# Altium schematic symbol library CHXXX.schlib: 489 symbols (part 5 of 7)
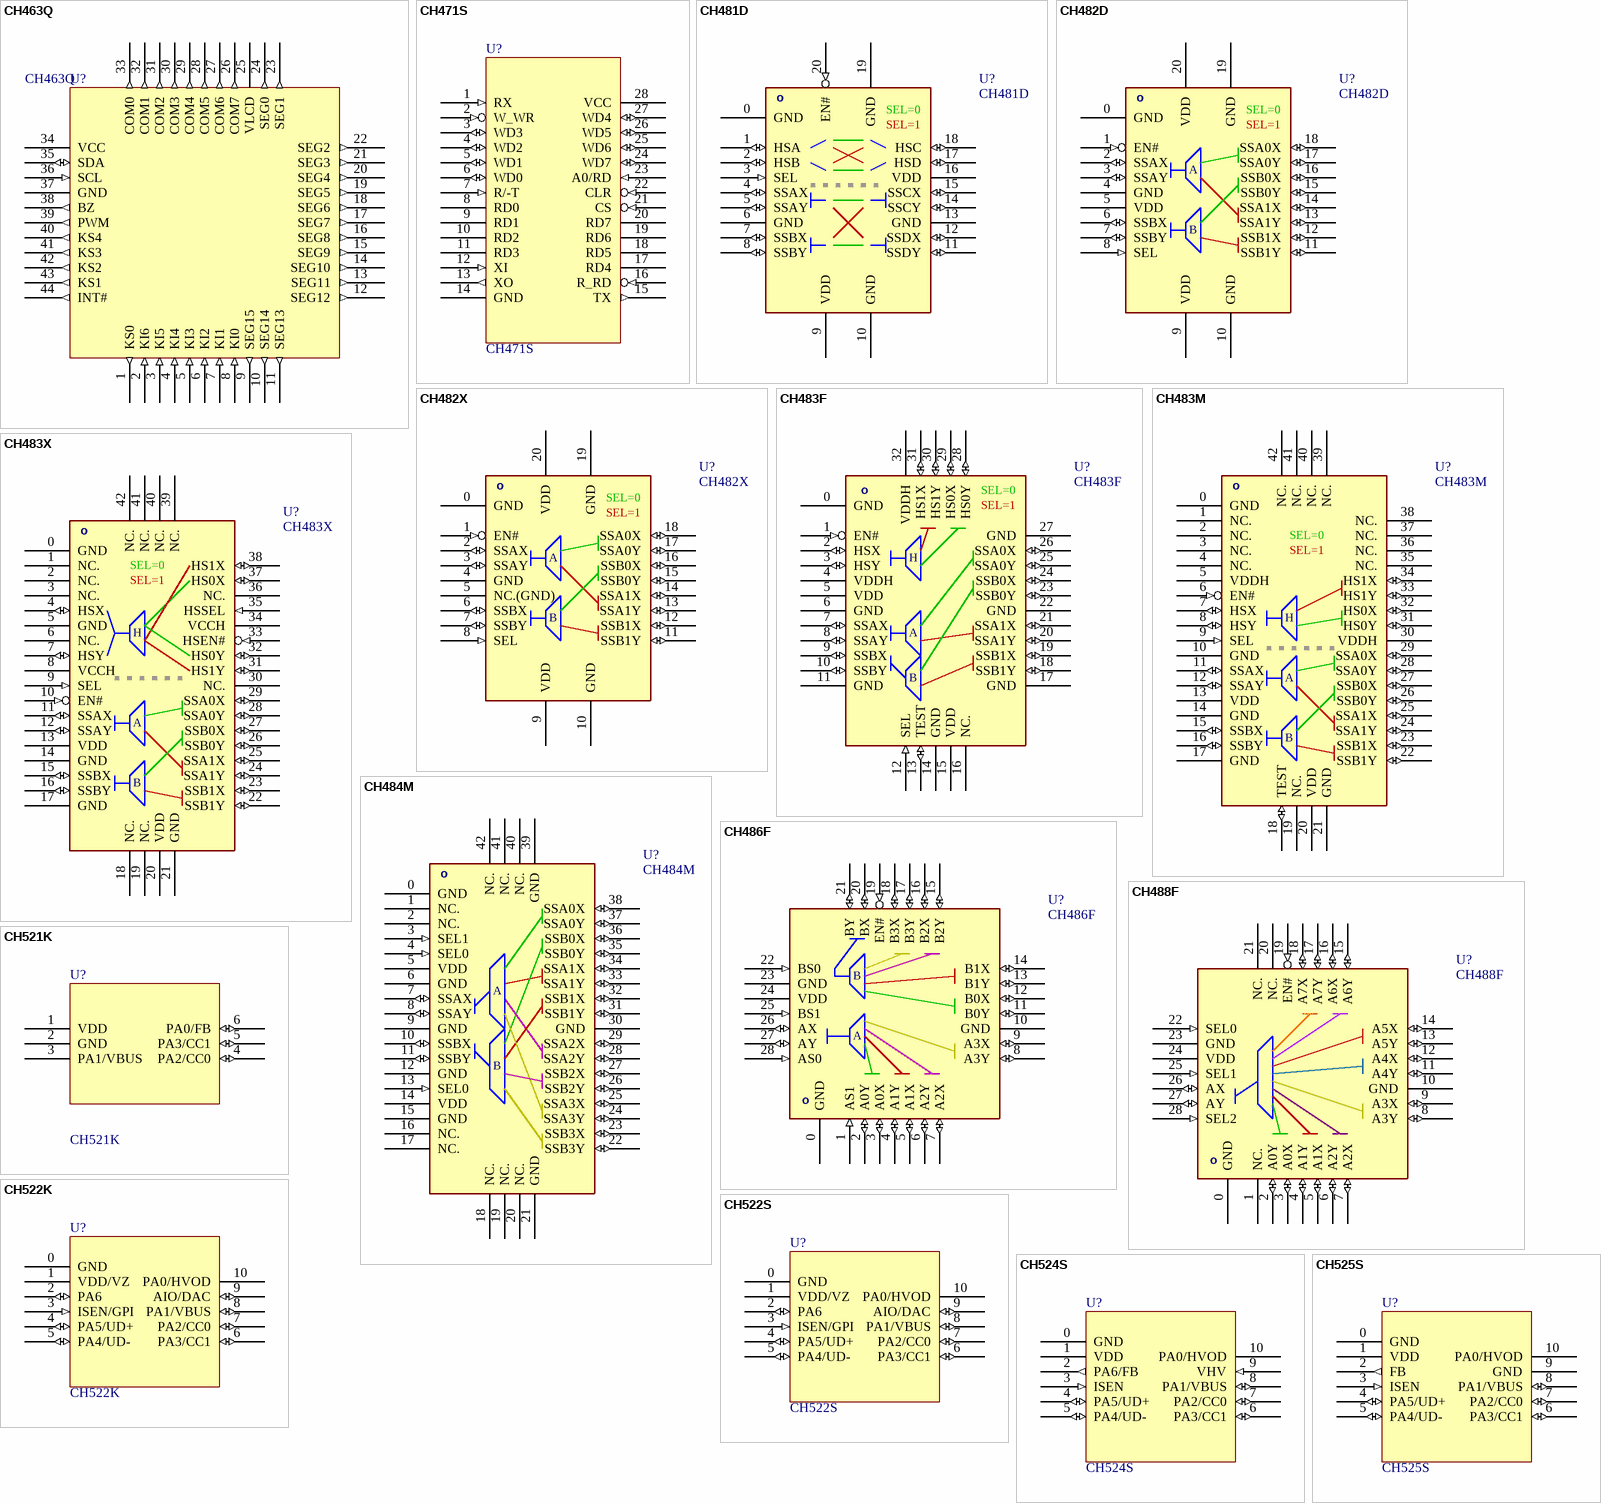
[diagram p66: symbols CH463Q to CH525S]

## CH482X
designator U?
DP/PCIe/SATA/USB3.0/USB3.2 Differential Switch, QPDT
footprint QFN20_2.5X4.5
pins: 0 GND (power), 1 EN# (in), 2 SSAX (io), 3 SSAY (io), 4 GND (power), 5 NC.(GND), 6 SSBX (io), 7 SSBY (io), 8 SEL (in), 9 VDD (power), 10 GND (power), 11 SSB1Y (io), 12 SSB1X (io), 13 SSA1Y (io), 14 SSA1X (io), 15 SSB0Y (io), 16 SSB0X (io), 17 SSA0Y (io), 18 SSA0X (io), 19 GND (power), 20 VDD (power)
2 alternate drawings of the same symbol
text: o; SEL=0; SEL=1; A; B

## CH483F
designator U?
DP/PCIe/SATA/USB3.0 & USB2.0 Differential Switch, QPDT+DPDT
footprint QFN32C_2.8X4.5
pins: 0 GND (power), 1 EN# (in), 2 HSX (io), 3 HSY (io), 4 VDDH (power), 5 VDD (power), 6 GND (power), 7 SSAX (io), 8 SSAY (io), 9 SSBX (io), 10 SSBY (io), 11 GND (power), 12 SEL (in), 13 TEST (io), 14 GND (power), 15 VDD (power), 16 NC., 17 GND (power), 18 SSB1Y (io), 19 SSB1X (io), 20 SSA1Y (io), 21 SSA1X (io), 22 GND (power), 23 SSB0Y (io), 24 SSB0X (io), 25 SSA0Y (io), 26 SSA0X (io), 27 GND (power), 28 HS0Y (io), 29 HS0X (io), 30 HS1Y (io), 31 HS1X (io), 32 VDDH (power)
2 alternate drawings of the same symbol
text: o; SEL=0; SEL=1; H; A; B

## CH483M
designator U?
DP/PCIe/SATA/USB3.0 & USB2.0 Differential Switch, QPDT+DPDT
footprint QFN42_3.5X9
pins: 0 GND (power), 1 NC., 2 NC., 3 NC., 4 NC., 5 VDDH (power), 6 EN# (in), 7 HSX (io), 8 HSY (io), 9 SEL (in), 10 GND (power), 11 SSAX (io), 12 SSAY (io), 13 VDD (power), 14 GND (power), 15 SSBX (io), 16 SSBY (io), 17 GND (power), 18 TEST (io), 19 NC., 20 VDD (power), 21 GND (power), 22 SSB1Y (io), 23 SSB1X (io), 24 SSA1Y (io), 25 SSA1X (io), 26 SSB0Y (io), 27 SSB0X (io), 28 SSA0Y (io), 29 SSA0X (io), 30 VDDH (power), 31 HS0Y (io), 32 HS0X (io), 33 HS1Y (io), 34 HS1X (io), 35 NC., 36 NC., 37 NC., 38 NC., 39 NC., 40 NC., 41 NC., 42 NC.
2 alternate drawings of the same symbol
text: o; SEL=0; SEL=1; H; A; B

## CH483X
designator U?
DP/PCIe/SATA/USB3.0 & USB2.0 Differential Switch, QPDT+DPDT
footprint QFN42_3.5X9
pins: 0 GND (power), 1 NC., 2 NC., 3 NC., 4 HSX (io), 5 GND (power), 6 NC., 7 HSY (io), 8 VCCH (power), 9 SEL (in), 10 EN# (in), 11 SSAX (io), 12 SSAY (io), 13 VDD (power), 14 GND (power), 15 SSBX (io), 16 SSBY (io), 17 GND (power), 18 NC., 19 NC., 20 VDD (power), 21 GND (power), 22 SSB1Y (io), 23 SSB1X (io), 24 SSA1Y (io), 25 SSA1X (io), 26 SSB0Y (io), 27 SSB0X (io), 28 SSA0Y (io), 29 SSA0X (io), 30 NC., 31 HS1Y (io), 32 HS0Y (io), 33 HSEN# (in), 34 VCCH (power), 35 HSSEL (in), 36 NC., 37 HS0X (io), 38 HS1X (io), 39 NC., 40 NC., 41 NC., 42 NC.
2 alternate drawings of the same symbol
text: o; SEL=0; SEL=1; H; A; B

## CH484M
designator U?
DP/PCIe/SATA/USB3.0 Differential Switch, QPQT
footprint QFN42_3.5X9
pins: 0 GND (power), 1 NC., 2 NC., 3 SEL1 (in), 4 SEL0 (in), 5 VDD (power), 6 GND (power), 7 SSAX (io), 8 SSAY (io), 9 GND (power), 10 SSBX (io), 11 SSBY (io), 12 GND (power), 13 SEL0 (in), 14 VDD (power), 15 GND (power), 16 NC., 17 NC., 18 NC., 19 NC., 20 NC., 21 GND (power), 22 SSB3Y (io), 23 SSB3X (io), 24 SSA3Y (io), 25 SSA3X (io), 26 SSB2Y (io), 27 SSB2X (io), 28 SSA2Y (io), 29 SSA2X (io), 30 GND (power), 31 SSB1Y (io), 32 SSB1X (io), 33 SSA1Y (io), 34 SSA1X (io), 35 SSB0Y (io), 36 SSB0X (io), 37 SSA0Y (io), 38 SSA0X (io), 39 GND (power), 40 NC., 41 NC., 42 NC.
2 alternate drawings of the same symbol
text: o; A; B

## CH486F
designator U?
USB2.0/1.5Gbps dual mux 4:1 Differential Switch, QPQT
footprint QFN28_4X4
pins: 0 GND (power), 1 AS1 (in), 2 A0Y (io), 3 A0X (io), 4 A1Y (io), 5 A1X (io), 6 A2Y (io), 7 A2X (io), 8 A3Y (io), 9 A3X (io), 10 GND (power), 11 B0Y (io), 12 B0X (io), 13 B1Y (io), 14 B1X (io), 15 B2Y (io), 16 B2X (io), 17 B3Y (io), 18 B3X (io), 19 EN# (in), 20 BX (io), 21 BY (io), 22 BS0 (in), 23 GND (power), 24 VDD (power), 25 BS1 (in), 26 AX (io), 27 AY (io), 28 AS0 (in)
2 alternate drawings of the same symbol
text: B; A; o

## CH488F
designator U?
USB2.0/1Gbps Differential Switch, DPOT
footprint QFN28_4X4
pins: 0 GND (power), 1 NC., 2 A0Y (io), 3 A0X (io), 4 A1Y (io), 5 A1X (io), 6 A2Y (io), 7 A2X (io), 8 A3Y (io), 9 A3X (io), 10 GND (power), 11 A4Y (io), 12 A4X (io), 13 A5Y (io), 14 A5X (io), 15 A6Y (io), 16 A6X (io), 17 A7Y (io), 18 A7X (io), 19 EN# (in), 20 NC., 21 NC., 22 SEL0 (in), 23 GND (power), 24 VDD (power), 25 SEL1 (in), 26 AX (io), 27 AY (io), 28 SEL2 (in)
2 alternate drawings of the same symbol
text: o

## CH521K
designator U?
8 bit RISC MCU with USB PD & type-C power manager
footprint SOT-23-6
pins: 1 VDD (power), 2 GND (power), 3 PA1/VBUS (oc), 4 PA2/CC0 (io), 5 PA3/CC1 (io), 6 PA0/FB (io)

## CH522K
designator U?
8 bit RISC MCU with USB PD & type-C power consumer
footprint ESSOP10
pins: 0 GND (power), 1 VDD/VZ (power), 2 PA6 (io), 3 ISEN/GPI (in), 4 PA5/UD+ (io), 5 PA4/UD- (io), 6 PA3/CC1 (io), 7 PA2/CC0 (io), 8 PA1/VBUS (io), 9 AIO/DAC (io), 10 PA0/HVOD (oc)

## CH522S
designator U?
8 bit RISC MCU with USB PD & type-C power module
footprint ESSOP10
pins: 0 GND (power), 1 VDD/VZ (power), 2 PA6 (io), 3 ISEN/GPI (in), 4 PA5/UD+ (io), 5 PA4/UD- (io), 6 PA3/CC1 (io), 7 PA2/CC0 (io), 8 PA1/VBUS (io), 9 AIO/DAC (io), 10 PA0/HVOD (oc)

## CH524S
designator U?
8 bit RISC MCU with USB PD & type-C power manager
footprint ESSOP10
pins: 0 GND (power), 1 VDD (power), 2 PA6/FB (out), 3 ISEN (in), 4 PA5/UD+ (io), 5 PA4/UD- (io), 6 PA3/CC1 (io), 7 PA2/CC0 (io), 8 PA1/VBUS (io), 9 VHV (in), 10 PA0/HVOD (oc)

## CH525S
designator U?
8 bit RISC MCU with USB PD & type-C power manager
footprint ESSOP10
pins: 0 GND (power), 1 VDD (power), 2 FB (out), 3 ISEN (in), 4 PA5/UD+ (io), 5 PA4/UD- (io), 6 PA3/CC1 (io), 7 PA2/CC0 (io), 8 PA1/VBUS (io), 9 GND (power), 10 PA0/HVOD (oc)

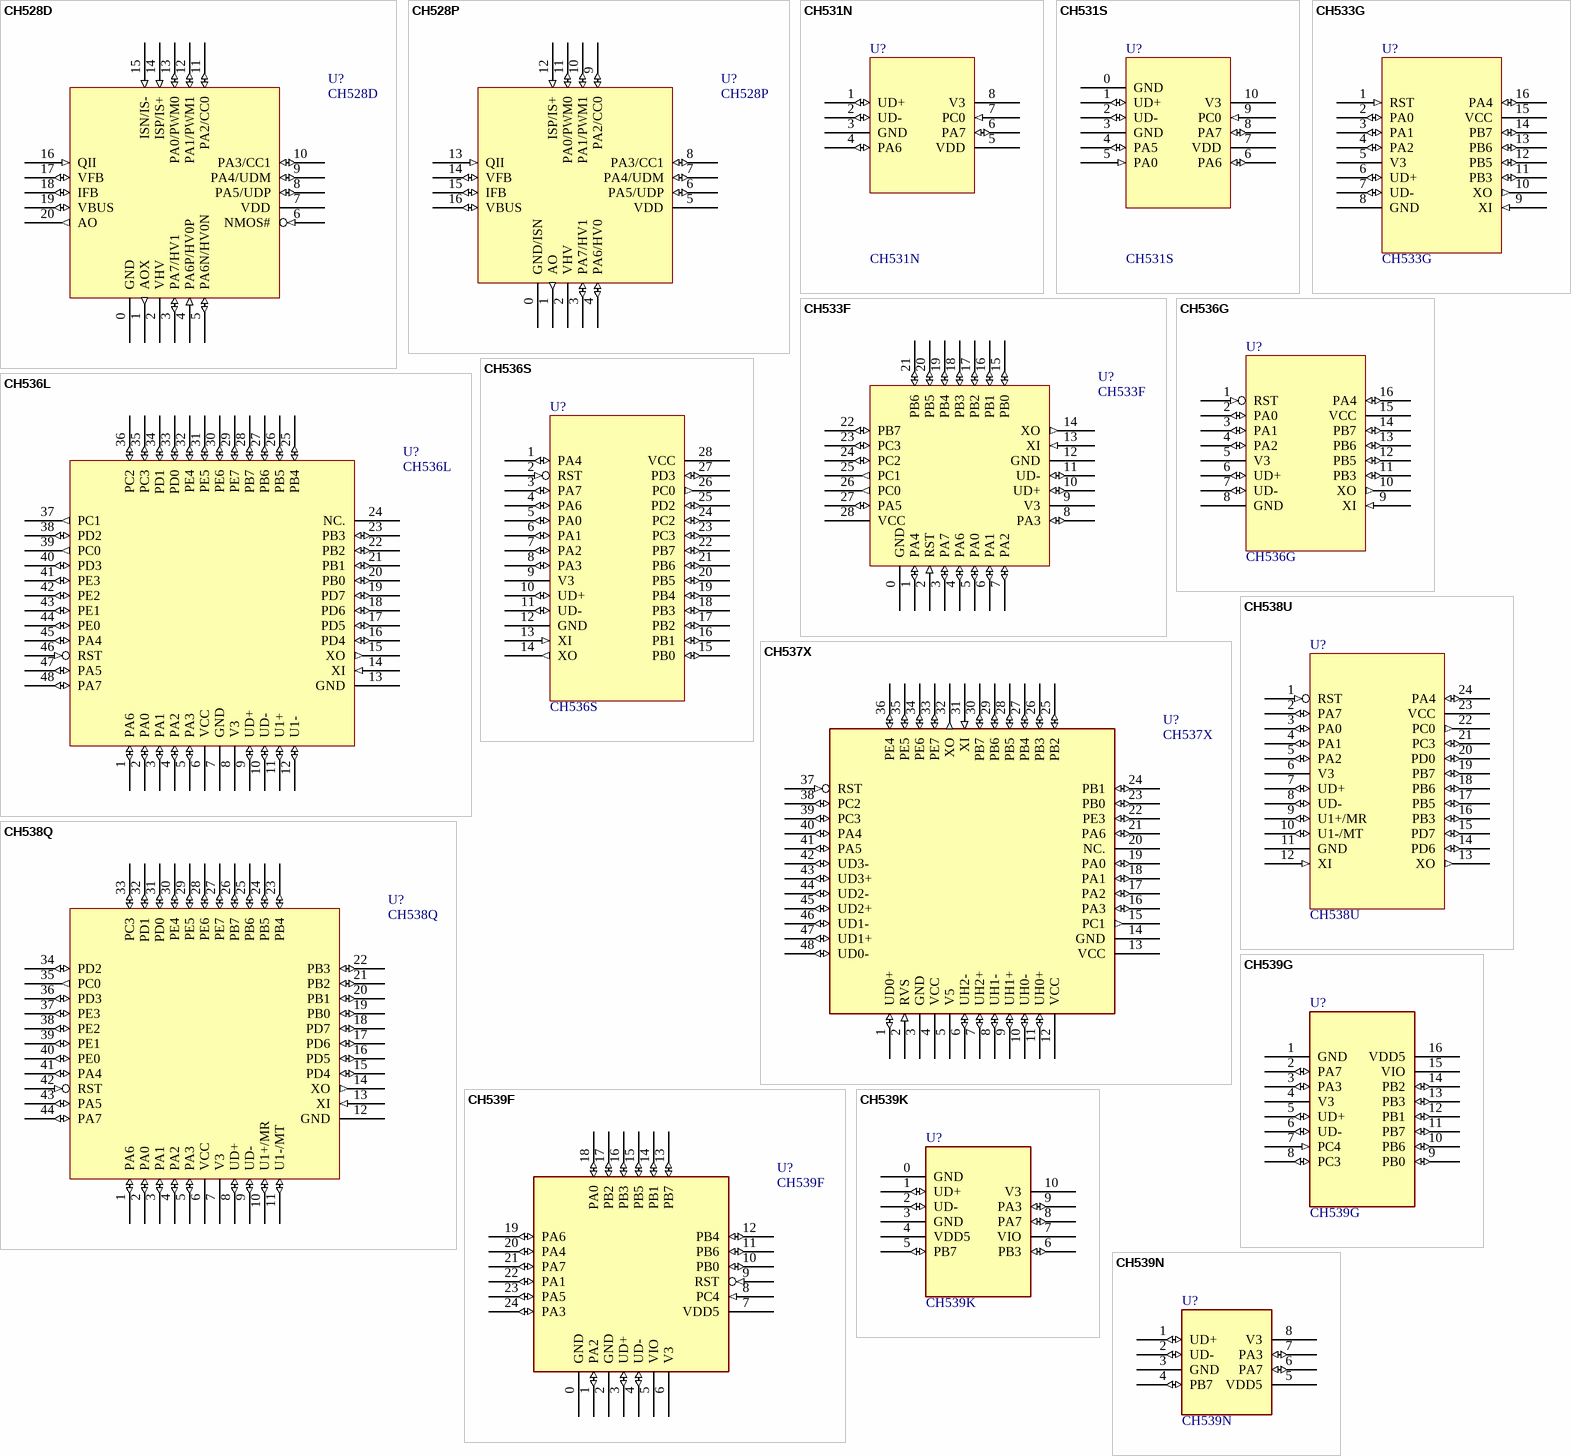
[diagram p36: symbols CH528D to CH539N]

## CH528D
designator U?
8 bit RISC MCU with USB PD & type-C & QI high voltage power manager
footprint QFN20_3X3
pins: 0 GND (power), 1 AOX (out), 2 VHV (power), 3 PA7/HV1 (io), 4 PA6P/HV0P (in), 5 PA6N/HV0N (io), 6 NMOS# (in), 7 VDD (power), 8 PA5/UDP (io), 9 PA4/UDM (io), 10 PA3/CC1 (io), 11 PA2/CC0 (io), 12 PA1/PWM1 (io), 13 PA0/PWM0 (io), 14 ISP/IS+ (in), 15 ISN/IS- (in), 16 QII (in), 17 VFB (io), 18 IFB (io), 19 VBUS (io), 20 AO (out)

## CH528P
designator U?
8 bit RISC MCU with USB PD & type-C & QI high voltage power manager
footprint QFN16_3X3
pins: 0 GND/ISN (power), 1 AO (out), 2 VHV (power), 3 PA7/HV1 (io), 4 PA6/HV0 (io), 5 VDD (power), 6 PA5/UDP (io), 7 PA4/UDM (io), 8 PA3/CC1 (io), 9 PA2/CC0 (io), 10 PA1/PWM1 (io), 11 PA0/PWM0 (io), 12 ISP/IS+ (in), 13 QII (in), 14 VFB (io), 15 IFB (io), 16 VBUS (io)

## CH531N
designator U?
8 bit RISC MCU with USB host & device
footprint SOP8 (Footprint not found)
pins: 1 UD+ (io), 2 UD- (io), 3 GND (power), 4 PA6 (io), 5 VDD (power), 6 PA7 (io), 7 PC0 (in), 8 V3 (power)

## CH531S
designator U?
8 bit RISC MCU with USB host & device
footprint ESSOP10 (Footprint not found)
pins: 0 GND (power), 1 UD+ (io), 2 UD- (io), 3 GND (power), 4 PA5 (io), 5 PA0 (in), 6 PA6 (io), 7 VDD (power), 8 PA7 (io), 9 PC0 (in), 10 V3 (power)

## CH533F
designator U?
8 bit RISC MCU with USB host & device
footprint QFN28_4X4
pins: 0 GND (power), 1 PA4 (io), 2 RST (in), 3 PA7 (io), 4 PA6 (io), 5 PA0 (io), 6 PA1 (io), 7 PA2 (io), 8 PA3 (io), 9 V3 (power), 10 UD+ (io), 11 UD- (io), 12 GND (power), 13 XI (in), 14 XO (out), 15 PB0 (io), 16 PB1 (io), 17 PB2 (io), 18 PB3 (io), 19 PB4 (io), 20 PB5 (io), 21 PB6 (io), 22 PB7 (io), 23 PC3 (io), 24 PC2 (io), 25 PC1 (out), 26 PC0 (out), 27 PA5 (io), 28 VCC (power)

## CH533G
designator U?
8 bit RISC MCU with USB host & device
footprint SOP16
footprint DIP16
pins: 1 RST (in), 2 PA0 (io), 3 PA1 (io), 4 PA2 (io), 5 V3 (power), 6 UD+ (io), 7 UD- (io), 8 GND (power), 9 XI (in), 10 XO (out), 11 PB3 (io), 12 PB5 (io), 13 PB6 (io), 14 PB7 (io), 15 VCC (power), 16 PA4 (io)

## CH536G
designator U?
8 bit RISC MCU with USB host & device
footprint SOP16
footprint DIP16
pins: 1 RST (in), 2 PA0 (io), 3 PA1 (io), 4 PA2 (io), 5 V3 (power), 6 UD+ (io), 7 UD- (io), 8 GND (power), 9 XI (in), 10 XO (out), 11 PB3 (io), 12 PB5 (io), 13 PB6 (io), 14 PB7 (io), 15 VCC (power), 16 PA4 (io)

## CH536L
designator U?
8 bit RISC MCU with USB host & device
footprint LQFP48
pins: 1 PA6 (io), 2 PA0 (io), 3 PA1 (io), 4 PA2 (io), 5 PA3 (io), 6 VCC (power), 7 GND (power), 8 V3 (power), 9 UD+ (io), 10 UD- (io), 11 U1+ (io), 12 U1- (io), 13 GND (power), 14 XI (in), 15 XO (out), 16 PD4 (io), 17 PD5 (io), 18 PD6 (io), 19 PD7 (io), 20 PB0 (io), 21 PB1 (io), 22 PB2 (io), 23 PB3 (io), 24 NC., 25 PB4 (io), 26 PB5 (io), 27 PB6 (io), 28 PB7 (io), 29 PE7 (io), 30 PE6 (io), 31 PE5 (io), 32 PE4 (io), 33 PD0 (io), 34 PD1 (io), 35 PC3 (io), 36 PC2 (io), 37 PC1 (out), 38 PD2 (io), 39 PC0 (out), 40 PD3 (io), 41 PE3 (io), 42 PE2 (io), 43 PE1 (io), 44 PE0 (io), 45 PA4 (io), 46 RST (in), 47 PA5 (io), 48 PA7 (io)

## CH536S
designator U?
8 bit RISC MCU with USB host & device
footprint SOP28
footprint DIP28
pins: 1 PA4 (io), 2 RST (in), 3 PA7 (io), 4 PA6 (io), 5 PA0 (io), 6 PA1 (io), 7 PA2 (io), 8 PA3 (io), 9 V3 (power), 10 UD+ (io), 11 UD- (io), 12 GND (power), 13 XI (in), 14 XO (out), 15 PB0 (io), 16 PB1 (io), 17 PB2 (io), 18 PB3 (io), 19 PB4 (io), 20 PB5 (io), 21 PB6 (io), 22 PB7 (io), 23 PC3 (io), 24 PC2 (io), 25 PD2 (io), 26 PC0 (out), 27 PD3 (io), 28 VCC (power)

## CH537X
designator U?
8 bit RISC Flash MCU for 4 PC KVM, include 3 USB host and 4 USB device
footprint LQFP48
pins: 1 UD0+ (io), 2 RVS (in), 3 GND (power), 4 VCC (power), 5 V5 (power), 6 UH2- (io), 7 UH2+ (io), 8 UH1- (io), 9 UH1+ (io), 10 UH0- (io), 11 UH0+ (io), 12 VCC (power), 13 VCC (power), 14 GND (power), 15 PC1 (out), 16 PA3 (io), 17 PA2 (io), 18 PA1 (io), 19 PA0 (io), 20 NC., 21 PA6 (io), 22 PE3 (io), 23 PB0 (io), 24 PB1 (io), 25 PB2 (io), 26 PB3 (io), 27 PB4 (io), 28 PB5 (io), 29 PB6 (io), 30 PB7 (io), 31 XI (in), 32 XO (out), 33 PE7 (io), 34 PE6 (io), 35 PE5 (io), 36 PE4 (io), 37 RST (in), 38 PC2 (io), 39 PC3 (io), 40 PA4 (io), 41 PA5 (io), 42 UD3- (io), 43 UD3+ (io), 44 UD2- (io), 45 UD2+ (io), 46 UD1- (io), 47 UD1+ (io), 48 UD0- (io)

## CH538Q
designator U?
8 bit RISC MCU with USB host/device and MFM en/decode
footprint LQFP44
pins: 1 PA6 (io), 2 PA0 (io), 3 PA1 (io), 4 PA2 (io), 5 PA3 (io), 6 VCC (power), 7 V3 (power), 8 UD+ (io), 9 UD- (io), 10 U1+/MR (io), 11 U1-/MT (io), 12 GND (power), 13 XI (in), 14 XO (out), 15 PD4 (io), 16 PD5 (io), 17 PD6 (io), 18 PD7 (io), 19 PB0 (io), 20 PB1 (io), 21 PB2 (io), 22 PB3 (io), 23 PB4 (io), 24 PB5 (io), 25 PB6 (io), 26 PB7 (io), 27 PE7 (io), 28 PE6 (io), 29 PE5 (io), 30 PE4 (io), 31 PD0 (io), 32 PD1 (io), 33 PC3 (io), 34 PD2 (io), 35 PC0 (out), 36 PD3 (io), 37 PE3 (io), 38 PE2 (io), 39 PE1 (io), 40 PE0 (io), 41 PA4 (io), 42 RST (in), 43 PA5 (io), 44 PA7 (io)

## CH538U
designator U?
8 bit RISC MCU with USB host/device and MFM en/decode
footprint SSOP24
pins: 1 RST (in), 2 PA7 (io), 3 PA0 (io), 4 PA1 (io), 5 PA2 (io), 6 V3 (power), 7 UD+ (io), 8 UD- (io), 9 U1+/MR (io), 10 U1-/MT (io), 11 GND (power), 12 XI (in), 13 XO (out), 14 PD6 (io), 15 PD7 (io), 16 PB3 (io), 17 PB5 (io), 18 PB6 (io), 19 PB7 (io), 20 PD0 (io), 21 PC3 (io), 22 PC0 (out), 23 VCC (power), 24 PA4 (io)

## CH539F
designator U?
8 bit RISC MCU with USB host & device & UART
footprint QFN24_4X4
pins: 0 GND (power), 1 PA2 (io), 2 GND (power), 3 UD+ (io), 4 UD- (io), 5 VIO (power), 6 V3 (power), 7 VDD5 (power), 8 PC4 (in), 9 RST (in), 10 PB0 (io), 11 PB6 (io), 12 PB4 (io), 13 PB7 (io), 14 PB1 (io), 15 PB5 (io), 16 PB3 (io), 17 PB2 (io), 18 PA0 (io), 19 PA6 (io), 20 PA4 (io), 21 PA7 (io), 22 PA1 (io), 23 PA5 (io), 24 PA3 (io)

## CH539G
designator U?
8 bit RISC MCU with USB host & device & UART
footprint SOP16
footprint DIP16
pins: 1 GND (power), 2 PA7 (io), 3 PA3 (io), 4 V3 (power), 5 UD+ (io), 6 UD- (io), 7 PC4 (in), 8 PC3 (io), 9 PB0 (io), 10 PB6 (io), 11 PB7 (io), 12 PB1 (io), 13 PB3 (io), 14 PB2 (io), 15 VIO (power), 16 VDD5 (power)

## CH539K
designator U?
8 bit RISC MCU with USB host & device & UART
footprint ESSOP10
pins: 0 GND (power), 1 UD+ (io), 2 UD- (io), 3 GND (power), 4 VDD5 (power), 5 PB7 (io), 6 PB3 (io), 7 VIO (power), 8 PA7 (io), 9 PA3 (io), 10 V3 (power)

## CH539N
designator U?
8 bit RISC MCU with USB host & device & UART
footprint SOP8
footprint DIP8
pins: 1 UD+ (io), 2 UD- (io), 3 GND (power), 4 PB7 (io), 5 VDD5 (power), 6 PA7 (io), 7 PA3 (io), 8 V3 (power)
2 alternate drawings of the same symbol

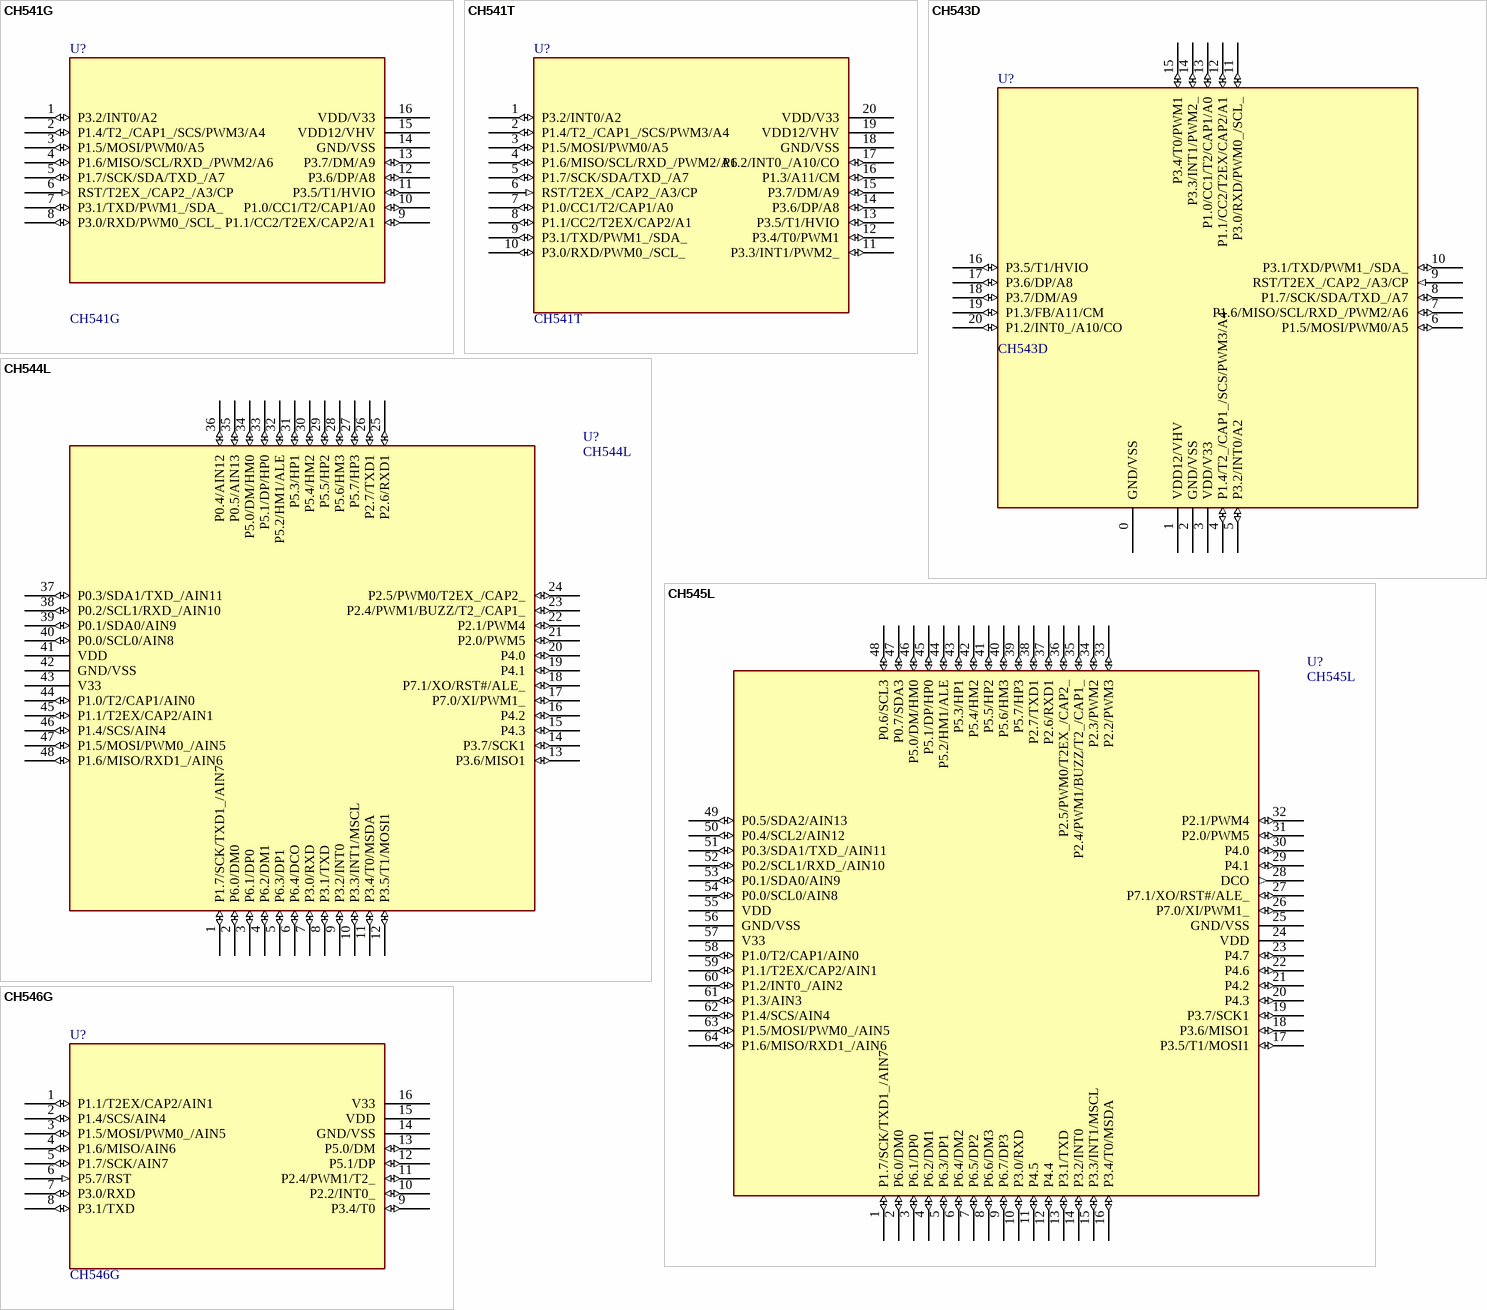
[diagram p37: symbols CH541G to CH546G]

## CH541G
designator U?
8bit MCS51 MCU with USB device & type C & ADC & UART & SPI & I2C & PWM
footprint SOP16 (Footprint not found)
pins: 1 P3.2/INT0/A2 (io), 2 P1.4/T2_/CAP1_/SCS/PWM3/A4 (io), 3 P1.5/MOSI/PWM0/A5 (io), 4 P1.6/MISO/SCL/RXD_/PWM2/A6 (io), 5 P1.7/SCK/SDA/TXD_/A7 (io), 6 RST/T2EX_/CAP2_/A3/CP (in), 7 P3.1/TXD/PWM1_/SDA_ (io), 8 P3.0/RXD/PWM0_/SCL_ (io), 9 P1.1/CC2/T2EX/CAP2/A1 (io), 10 P1.0/CC1/T2/CAP1/A0 (io), 11 P3.5/T1/HVIO (io), 12 P3.6/DP/A8 (io), 13 P3.7/DM/A9 (io), 14 GND/VSS (power), 15 VDD12/VHV (power), 16 VDD/V33 (power)
2 alternate drawings of the same symbol

## CH541T
designator U?
8bit MCS51 MCU with USB device & type C & ADC & UART & SPI & I2C & PWM
footprint TSSOP20
footprint DIP20
pins: 1 P3.2/INT0/A2 (io), 2 P1.4/T2_/CAP1_/SCS/PWM3/A4 (io), 3 P1.5/MOSI/PWM0/A5 (io), 4 P1.6/MISO/SCL/RXD_/PWM2/A6 (io), 5 P1.7/SCK/SDA/TXD_/A7 (io), 6 RST/T2EX_/CAP2_/A3/CP (in), 7 P1.0/CC1/T2/CAP1/A0 (io), 8 P1.1/CC2/T2EX/CAP2/A1 (io), 9 P3.1/TXD/PWM1_/SDA_ (io), 10 P3.0/RXD/PWM0_/SCL_ (io), 11 P3.3/INT1/PWM2_ (io), 12 P3.4/T0/PWM1 (io), 13 P3.5/T1/HVIO (io), 14 P3.6/DP/A8 (io), 15 P3.7/DM/A9 (io), 16 P1.3/A11/CM (io), 17 P1.2/INT0_/A10/CO (io), 18 GND/VSS (power), 19 VDD12/VHV (power), 20 VDD/V33 (power)
2 alternate drawings of the same symbol

## CH543D
designator U?
8bit MCS51 MCU with USB & USB PD & type-C & ADC & UART & SPI & I2C & PWM
footprint QFN20_3X3
pins: 0 GND/VSS (power), 1 VDD12/VHV (power), 2 GND/VSS (power), 3 VDD/V33 (power), 4 P1.4/T2_/CAP1_/SCS/PWM3/A4 (io), 5 P3.2/INT0/A2 (io), 6 P1.5/MOSI/PWM0/A5 (io), 7 P1.6/MISO/SCL/RXD_/PWM2/A6 (io), 8 P1.7/SCK/SDA/TXD_/A7 (io), 9 RST/T2EX_/CAP2_/A3/CP (in), 10 P3.1/TXD/PWM1_/SDA_ (io), 11 P3.0/RXD/PWM0_/SCL_ (io), 12 P1.1/CC2/T2EX/CAP2/A1 (io), 13 P1.0/CC1/T2/CAP1/A0 (io), 14 P3.3/INT1/PWM2_ (io), 15 P3.4/T0/PWM1 (io), 16 P3.5/T1/HVIO (io), 17 P3.6/DP/A8 (io), 18 P3.7/DM/A9 (io), 19 P1.3/FB/A11/CM (io), 20 P1.2/INT0_/A10/CO (io)
2 alternate drawings of the same symbol

## CH544L
designator U?
8bit MCS51 MCU with ADC & USB host 4 ports & KVM2 device & dual UART & SPI & dual I2C
footprint LQFP48
pins: 1 P1.7/SCK/TXD1_/AIN7 (io), 2 P6.0/DM0 (io), 3 P6.1/DP0 (io), 4 P6.2/DM1 (io), 5 P6.3/DP1 (io), 6 P6.4/DCO (io), 7 P3.0/RXD (io), 8 P3.1/TXD (io), 9 P3.2/INT0 (io), 10 P3.3/INT1/MSCL (io), 11 P3.4/T0/MSDA (io), 12 P3.5/T1/MOSI1 (io), 13 P3.6/MISO1 (io), 14 P3.7/SCK1 (io), 15 P4.3 (io), 16 P4.2 (io), 17 P7.0/XI/PWM1_ (io), 18 P7.1/XO/RST#/ALE_ (io), 19 P4.1 (io), 20 P4.0 (io), 21 P2.0/PWM5 (io), 22 P2.1/PWM4 (io), 23 P2.4/PWM1/BUZZ/T2_/CAP1_ (io), 24 P2.5/PWM0/T2EX_/CAP2_ (io), 25 P2.6/RXD1 (io), 26 P2.7/TXD1 (io), 27 P5.7/HP3 (io), 28 P5.6/HM3 (io), 29 P5.5/HP2 (io), 30 P5.4/HM2 (io), 31 P5.3/HP1 (io), 32 P5.2/HM1/ALE (io), 33 P5.1/DP/HP0 (io), 34 P5.0/DM/HM0 (io), 35 P0.5/AIN13 (io), 36 P0.4/AIN12 (io), 37 P0.3/SDA1/TXD_/AIN11 (io), 38 P0.2/SCL1/RXD_/AIN10 (io), 39 P0.1/SDA0/AIN9 (io), 40 P0.0/SCL0/AIN8 (io), 41 VDD (power), 42 GND/VSS (power), 43 V33 (power), 44 P1.0/T2/CAP1/AIN0 (io), 45 P1.1/T2EX/CAP2/AIN1 (io), 46 P1.4/SCS/AIN4 (io), 47 P1.5/MOSI/PWM0_/AIN5 (io), 48 P1.6/MISO/RXD1_/AIN6 (io)

## CH545L
designator U?
8bit MCS51 MCU with ADC & USB host 4 ports & KVM4 device & dual UART & SPI & quad I2C
footprint LQFP64
pins: 1 P1.7/SCK/TXD1_/AIN7 (io), 2 P6.0/DM0 (io), 3 P6.1/DP0 (io), 4 P6.2/DM1 (io), 5 P6.3/DP1 (io), 6 P6.4/DM2 (io), 7 P6.5/DP2 (io), 8 P6.6/DM3 (io), 9 P6.7/DP3 (io), 10 P3.0/RXD (io), 11 P4.5 (io), 12 P4.4 (io), 13 P3.1/TXD (io), 14 P3.2/INT0 (io), 15 P3.3/INT1/MSCL (io), 16 P3.4/T0/MSDA (io), 17 P3.5/T1/MOSI1 (io), 18 P3.6/MISO1 (io), 19 P3.7/SCK1 (io), 20 P4.3 (io), 21 P4.2 (io), 22 P4.6 (io), 23 P4.7 (io), 24 VDD (power), 25 GND/VSS (power), 26 P7.0/XI/PWM1_ (io), 27 P7.1/XO/RST#/ALE_ (io), 28 DCO (out), 29 P4.1 (io), 30 P4.0 (io), 31 P2.0/PWM5 (io), 32 P2.1/PWM4 (io), 33 P2.2/PWM3 (io), 34 P2.3/PWM2 (io), 35 P2.4/PWM1/BUZZ/T2_/CAP1_ (io), 36 P2.5/PWM0/T2EX_/CAP2_ (io), 37 P2.6/RXD1 (io), 38 P2.7/TXD1 (io), 39 P5.7/HP3 (io), 40 P5.6/HM3 (io), 41 P5.5/HP2 (io), 42 P5.4/HM2 (io), 43 P5.3/HP1 (io), 44 P5.2/HM1/ALE (io), 45 P5.1/DP/HP0 (io), 46 P5.0/DM/HM0 (io), 47 P0.7/SDA3 (io), 48 P0.6/SCL3 (io), 49 P0.5/SDA2/AIN13 (io), 50 P0.4/SCL2/AIN12 (io), 51 P0.3/SDA1/TXD_/AIN11 (io), 52 P0.2/SCL1/RXD_/AIN10 (io), 53 P0.1/SDA0/AIN9 (io), 54 P0.0/SCL0/AIN8 (io), 55 VDD (power), 56 GND/VSS (power), 57 V33 (power), 58 P1.0/T2/CAP1/AIN0 (io), 59 P1.1/T2EX/CAP2/AIN1 (io), 60 P1.2/INT0_/AIN2 (io), 61 P1.3/AIN3 (io), 62 P1.4/SCS/AIN4 (io), 63 P1.5/MOSI/PWM0_/AIN5 (io), 64 P1.6/MISO/RXD1_/AIN6 (io)

## CH546G
designator U?
8bit MCS51 MCU with ADC & USB device & UART & SPI
footprint SOP16
footprint DIP16
pins: 1 P1.1/T2EX/CAP2/AIN1 (io), 2 P1.4/SCS/AIN4 (io), 3 P1.5/MOSI/PWM0_/AIN5 (io), 4 P1.6/MISO/AIN6 (io), 5 P1.7/SCK/AIN7 (io), 6 P5.7/RST (in), 7 P3.0/RXD (io), 8 P3.1/TXD (io), 9 P3.4/T0 (io), 10 P2.2/INT0_ (io), 11 P2.4/PWM1/T2_ (io), 12 P5.1/DP (io), 13 P5.0/DM (io), 14 GND/VSS (power), 15 VDD (power), 16 V33 (power)

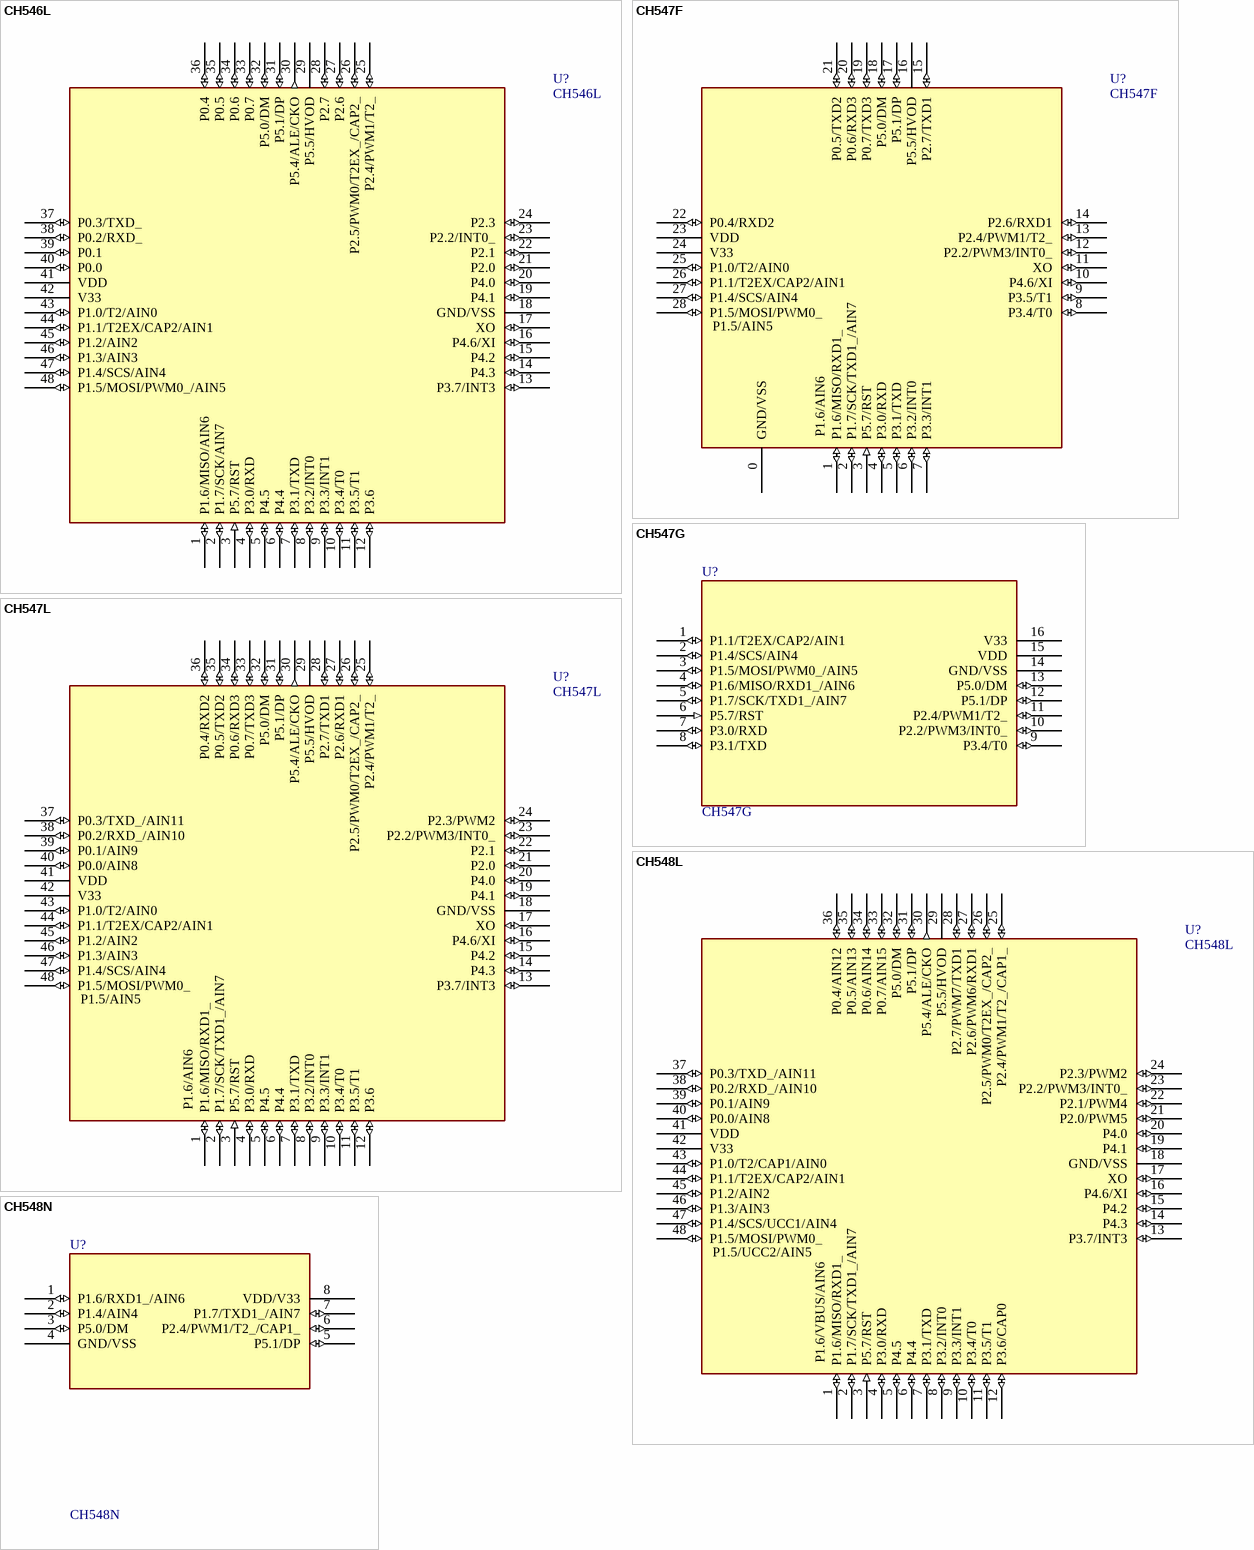
[diagram p38: symbols CH546L to CH548N]

## CH546L
designator U?
8bit MCS51 MCU with ADC & USB device & UART & SPI
footprint LQFP48
pins: 1 P1.6/MISO/AIN6 (io), 2 P1.7/SCK/AIN7 (io), 3 P5.7/RST (in), 4 P3.0/RXD (io), 5 P4.5 (io), 6 P4.4 (io), 7 P3.1/TXD (io), 8 P3.2/INT0 (io), 9 P3.3/INT1 (io), 10 P3.4/T0 (io), 11 P3.5/T1 (io), 12 P3.6 (io), 13 P3.7/INT3 (io), 14 P4.3 (io), 15 P4.2 (io), 16 P4.6/XI (io), 17 XO (io), 18 GND/VSS (power), 19 P4.1 (io), 20 P4.0 (io), 21 P2.0 (io), 22 P2.1 (io), 23 P2.2/INT0_ (io), 24 P2.3 (io), 25 P2.4/PWM1/T2_ (io), 26 P2.5/PWM0/T2EX_/CAP2_ (io), 27 P2.6 (io), 28 P2.7 (io), 29 P5.5/HVOD (oc), 30 P5.4/ALE/CKO (out), 31 P5.1/DP (io), 32 P5.0/DM (io), 33 P0.7 (io), 34 P0.6 (io), 35 P0.5 (io), 36 P0.4 (io), 37 P0.3/TXD_ (io), 38 P0.2/RXD_ (io), 39 P0.1 (io), 40 P0.0 (io), 41 VDD (power), 42 V33 (power), 43 P1.0/T2/AIN0 (io), 44 P1.1/T2EX/CAP2/AIN1 (io), 45 P1.2/AIN2 (io), 46 P1.3/AIN3 (io), 47 P1.4/SCS/AIN4 (io), 48 P1.5/MOSI/PWM0_/AIN5 (io)

## CH547F
designator U?
8bit MCS51 MCU with ADC & USB device & quad UART & SPI
footprint QFN28_4X4
pins: 0 GND/VSS (power), 1 P1.6/MISO/RXD1_ (io), 2 P1.7/SCK/TXD1_/AIN7 (io), 3 P5.7/RST (in), 4 P3.0/RXD (io), 5 P3.1/TXD (io), 6 P3.2/INT0 (io), 7 P3.3/INT1 (io), 8 P3.4/T0 (io), 9 P3.5/T1 (io), 10 P4.6/XI (io), 11 XO (io), 12 P2.2/PWM3/INT0_ (io), 13 P2.4/PWM1/T2_ (io), 14 P2.6/RXD1 (io), 15 P2.7/TXD1 (io), 16 P5.5/HVOD (oc), 17 P5.1/DP (io), 18 P5.0/DM (io), 19 P0.7/TXD3 (io), 20 P0.6/RXD3 (io), 21 P0.5/TXD2 (io), 22 P0.4/RXD2 (io), 23 VDD (power), 24 V33 (power), 25 P1.0/T2/AIN0 (io), 26 P1.1/T2EX/CAP2/AIN1 (io), 27 P1.4/SCS/AIN4 (io), 28 P1.5/MOSI/PWM0_ (io)
text: P1.5/AIN5; P1.6/AIN6

## CH547G
designator U?
8bit MCS51 MCU with ADC & USB device & dual UART & SPI
footprint SOP16
footprint DIP16
pins: 1 P1.1/T2EX/CAP2/AIN1 (io), 2 P1.4/SCS/AIN4 (io), 3 P1.5/MOSI/PWM0_/AIN5 (io), 4 P1.6/MISO/RXD1_/AIN6 (io), 5 P1.7/SCK/TXD1_/AIN7 (io), 6 P5.7/RST (in), 7 P3.0/RXD (io), 8 P3.1/TXD (io), 9 P3.4/T0 (io), 10 P2.2/PWM3/INT0_ (io), 11 P2.4/PWM1/T2_ (io), 12 P5.1/DP (io), 13 P5.0/DM (io), 14 GND/VSS (power), 15 VDD (power), 16 V33 (power)

## CH547L
designator U?
8bit MCS51 MCU with ADC & USB device & quad UART & SPI
footprint LQFP48
pins: 1 P1.6/MISO/RXD1_ (io), 2 P1.7/SCK/TXD1_/AIN7 (io), 3 P5.7/RST (in), 4 P3.0/RXD (io), 5 P4.5 (io), 6 P4.4 (io), 7 P3.1/TXD (io), 8 P3.2/INT0 (io), 9 P3.3/INT1 (io), 10 P3.4/T0 (io), 11 P3.5/T1 (io), 12 P3.6 (io), 13 P3.7/INT3 (io), 14 P4.3 (io), 15 P4.2 (io), 16 P4.6/XI (io), 17 XO (io), 18 GND/VSS (power), 19 P4.1 (io), 20 P4.0 (io), 21 P2.0 (io), 22 P2.1 (io), 23 P2.2/PWM3/INT0_ (io), 24 P2.3/PWM2 (io), 25 P2.4/PWM1/T2_ (io), 26 P2.5/PWM0/T2EX_/CAP2_ (io), 27 P2.6/RXD1 (io), 28 P2.7/TXD1 (io), 29 P5.5/HVOD (oc), 30 P5.4/ALE/CKO (out), 31 P5.1/DP (io), 32 P5.0/DM (io), 33 P0.7/TXD3 (io), 34 P0.6/RXD3 (io), 35 P0.5/TXD2 (io), 36 P0.4/RXD2 (io), 37 P0.3/TXD_/AIN11 (io), 38 P0.2/RXD_/AIN10 (io), 39 P0.1/AIN9 (io), 40 P0.0/AIN8 (io), 41 VDD (power), 42 V33 (power), 43 P1.0/T2/AIN0 (io), 44 P1.1/T2EX/CAP2/AIN1 (io), 45 P1.2/AIN2 (io), 46 P1.3/AIN3 (io), 47 P1.4/SCS/AIN4 (io), 48 P1.5/MOSI/PWM0_ (io)
text: P1.5/AIN5; P1.6/AIN6

## CH548L
designator U?
8bit MCS51 MCU with ADC & USB type-C host & device & double UART & SPI
footprint LQFP48
pins: 1 P1.6/MISO/RXD1_ (io), 2 P1.7/SCK/TXD1_/AIN7 (io), 3 P5.7/RST (in), 4 P3.0/RXD (io), 5 P4.5 (io), 6 P4.4 (io), 7 P3.1/TXD (io), 8 P3.2/INT0 (io), 9 P3.3/INT1 (io), 10 P3.4/T0 (io), 11 P3.5/T1 (io), 12 P3.6/CAP0 (io), 13 P3.7/INT3 (io), 14 P4.3 (io), 15 P4.2 (io), 16 P4.6/XI (io), 17 XO (io), 18 GND/VSS (power), 19 P4.1 (io), 20 P4.0 (io), 21 P2.0/PWM5 (io), 22 P2.1/PWM4 (io), 23 P2.2/PWM3/INT0_ (io), 24 P2.3/PWM2 (io), 25 P2.4/PWM1/T2_/CAP1_ (io), 26 P2.5/PWM0/T2EX_/CAP2_ (io), 27 P2.6/PWM6/RXD1 (io), 28 P2.7/PWM7/TXD1 (io), 29 P5.5/HVOD (oc), 30 P5.4/ALE/CKO (out), 31 P5.1/DP (io), 32 P5.0/DM (io), 33 P0.7/AIN15 (io), 34 P0.6/AIN14 (io), 35 P0.5/AIN13 (io), 36 P0.4/AIN12 (io), 37 P0.3/TXD_/AIN11 (io), 38 P0.2/RXD_/AIN10 (io), 39 P0.1/AIN9 (io), 40 P0.0/AIN8 (io), 41 VDD (power), 42 V33 (power), 43 P1.0/T2/CAP1/AIN0 (io), 44 P1.1/T2EX/CAP2/AIN1 (io), 45 P1.2/AIN2 (io), 46 P1.3/AIN3 (io), 47 P1.4/SCS/UCC1/AIN4 (io), 48 P1.5/MOSI/PWM0_ (io)
text: P1.5/UCC2/AIN5; P1.6/VBUS/AIN6

## CH548N
designator U?
8bit MCS51 MCU with ADC & USB host & device & UART
footprint SOP8 (Footprint not found)
pins: 1 P1.6/RXD1_/AIN6 (io), 2 P1.4/AIN4 (io), 3 P5.0/DM (io), 4 GND/VSS (power), 5 P5.1/DP (io), 6 P2.4/PWM1/T2_/CAP1_ (io), 7 P1.7/TXD1_/AIN7 (io), 8 VDD/V33 (power)
2 alternate drawings of the same symbol

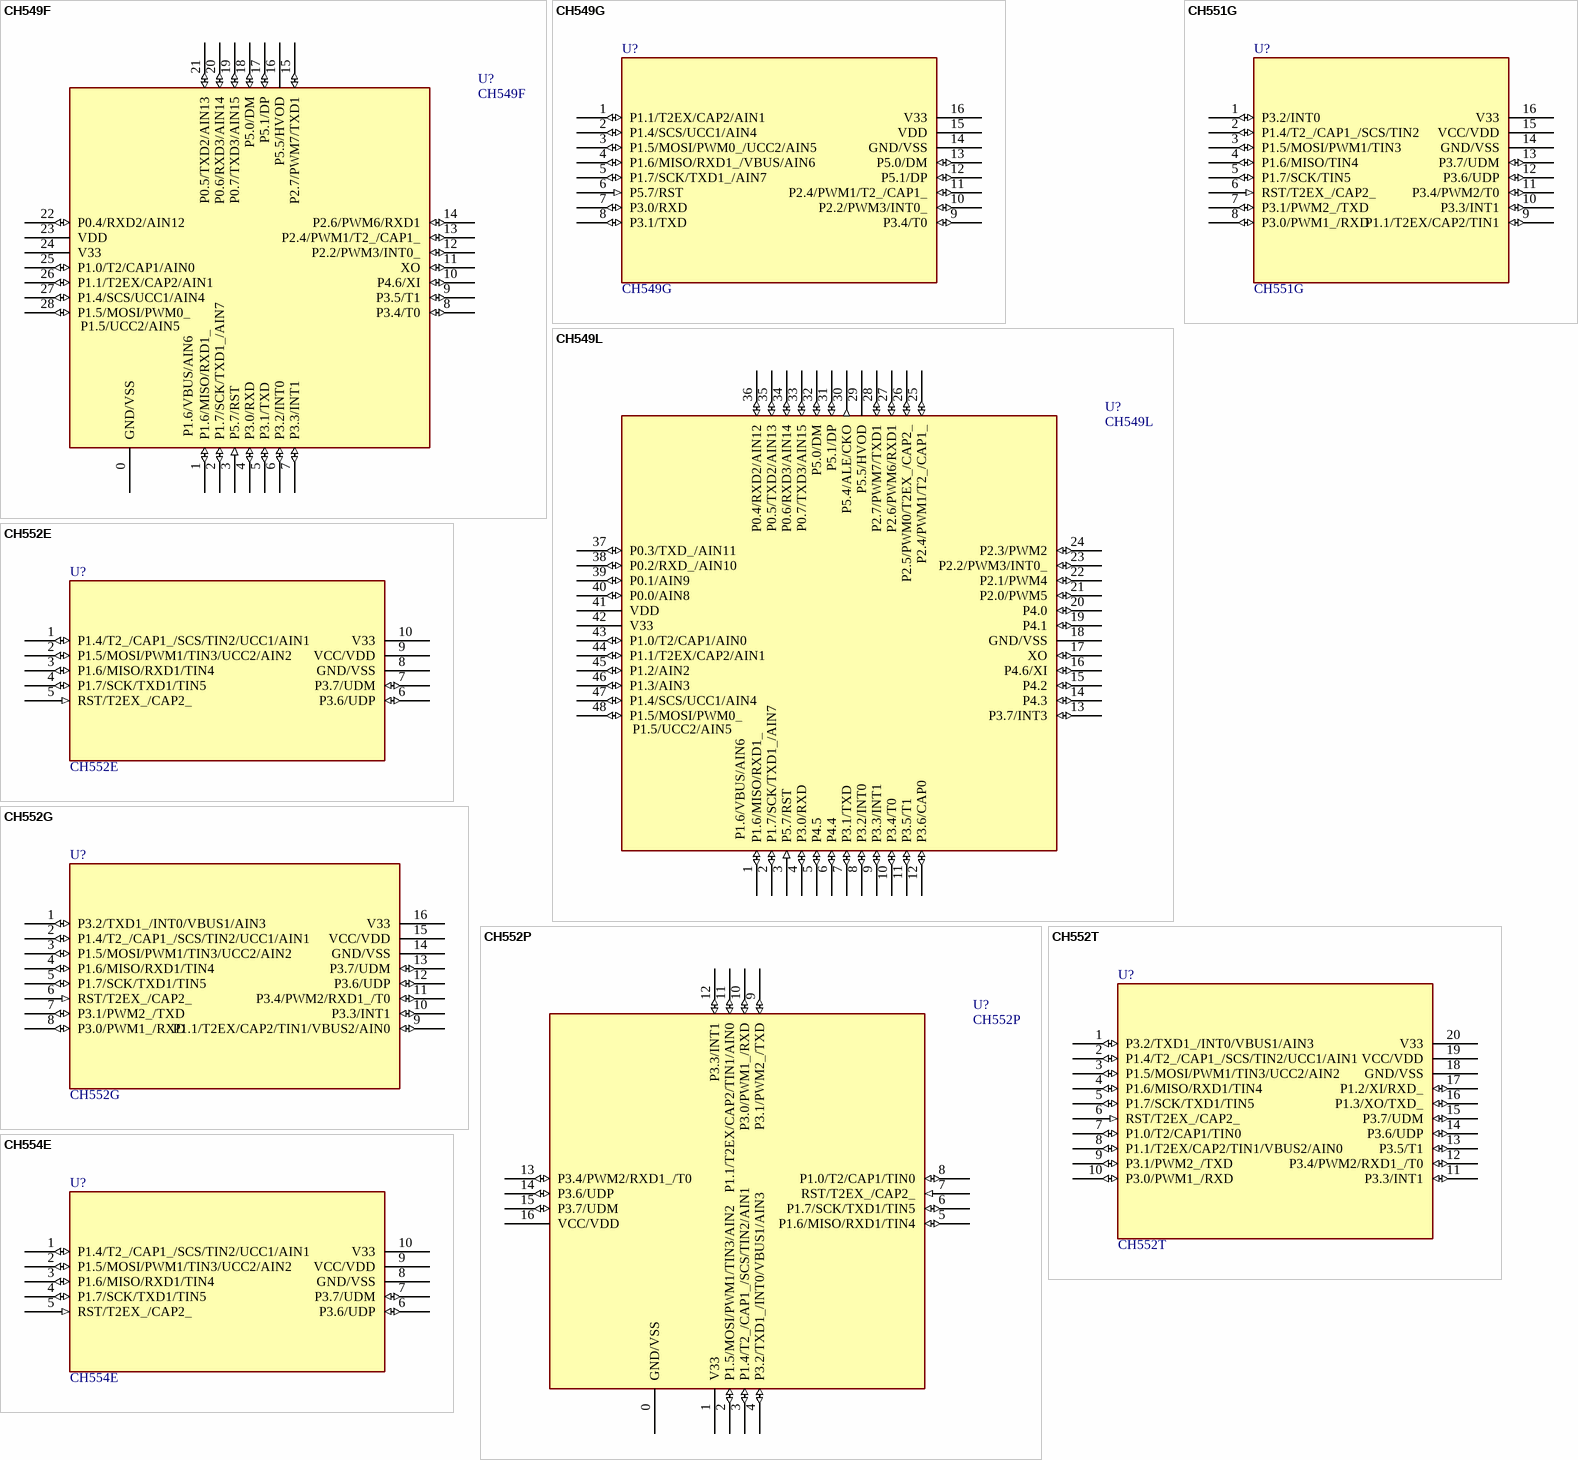
[diagram p39: symbols CH549F to CH554E]

## CH549F
designator U?
8bit MCS51 MCU with ADC & USB type-C host & device & quad UART & SPI
footprint QFN28_4X4
pins: 0 GND/VSS (power), 1 P1.6/MISO/RXD1_ (io), 2 P1.7/SCK/TXD1_/AIN7 (io), 3 P5.7/RST (in), 4 P3.0/RXD (io), 5 P3.1/TXD (io), 6 P3.2/INT0 (io), 7 P3.3/INT1 (io), 8 P3.4/T0 (io), 9 P3.5/T1 (io), 10 P4.6/XI (io), 11 XO (io), 12 P2.2/PWM3/INT0_ (io), 13 P2.4/PWM1/T2_/CAP1_ (io), 14 P2.6/PWM6/RXD1 (io), 15 P2.7/PWM7/TXD1 (io), 16 P5.5/HVOD (oc), 17 P5.1/DP (io), 18 P5.0/DM (io), 19 P0.7/TXD3/AIN15 (io), 20 P0.6/RXD3/AIN14 (io), 21 P0.5/TXD2/AIN13 (io), 22 P0.4/RXD2/AIN12 (io), 23 VDD (power), 24 V33 (power), 25 P1.0/T2/CAP1/AIN0 (io), 26 P1.1/T2EX/CAP2/AIN1 (io), 27 P1.4/SCS/UCC1/AIN4 (io), 28 P1.5/MOSI/PWM0_ (io)
text: P1.5/UCC2/AIN5; P1.6/VBUS/AIN6

## CH549G
designator U?
8bit MCS51 MCU with ADC & USB type-C host & device & dual UART & SPI
footprint SOP16
footprint DIP16
pins: 1 P1.1/T2EX/CAP2/AIN1 (io), 2 P1.4/SCS/UCC1/AIN4 (io), 3 P1.5/MOSI/PWM0_/UCC2/AIN5 (io), 4 P1.6/MISO/RXD1_/VBUS/AIN6 (io), 5 P1.7/SCK/TXD1_/AIN7 (io), 6 P5.7/RST (in), 7 P3.0/RXD (io), 8 P3.1/TXD (io), 9 P3.4/T0 (io), 10 P2.2/PWM3/INT0_ (io), 11 P2.4/PWM1/T2_/CAP1_ (io), 12 P5.1/DP (io), 13 P5.0/DM (io), 14 GND/VSS (power), 15 VDD (power), 16 V33 (power)

## CH549L
designator U?
8bit MCS51 MCU with ADC & USB type-C host & device & quad UART & SPI
footprint LQFP48
pins: 1 P1.6/MISO/RXD1_ (io), 2 P1.7/SCK/TXD1_/AIN7 (io), 3 P5.7/RST (in), 4 P3.0/RXD (io), 5 P4.5 (io), 6 P4.4 (io), 7 P3.1/TXD (io), 8 P3.2/INT0 (io), 9 P3.3/INT1 (io), 10 P3.4/T0 (io), 11 P3.5/T1 (io), 12 P3.6/CAP0 (io), 13 P3.7/INT3 (io), 14 P4.3 (io), 15 P4.2 (io), 16 P4.6/XI (io), 17 XO (io), 18 GND/VSS (power), 19 P4.1 (io), 20 P4.0 (io), 21 P2.0/PWM5 (io), 22 P2.1/PWM4 (io), 23 P2.2/PWM3/INT0_ (io), 24 P2.3/PWM2 (io), 25 P2.4/PWM1/T2_/CAP1_ (io), 26 P2.5/PWM0/T2EX_/CAP2_ (io), 27 P2.6/PWM6/RXD1 (io), 28 P2.7/PWM7/TXD1 (io), 29 P5.5/HVOD (oc), 30 P5.4/ALE/CKO (out), 31 P5.1/DP (io), 32 P5.0/DM (io), 33 P0.7/TXD3/AIN15 (io), 34 P0.6/RXD3/AIN14 (io), 35 P0.5/TXD2/AIN13 (io), 36 P0.4/RXD2/AIN12 (io), 37 P0.3/TXD_/AIN11 (io), 38 P0.2/RXD_/AIN10 (io), 39 P0.1/AIN9 (io), 40 P0.0/AIN8 (io), 41 VDD (power), 42 V33 (power), 43 P1.0/T2/CAP1/AIN0 (io), 44 P1.1/T2EX/CAP2/AIN1 (io), 45 P1.2/AIN2 (io), 46 P1.3/AIN3 (io), 47 P1.4/SCS/UCC1/AIN4 (io), 48 P1.5/MOSI/PWM0_ (io)
text: P1.5/UCC2/AIN5; P1.6/VBUS/AIN6

## CH551G
designator U?
8bit MCS51 MCU with SPI & UART & USB device
footprint SOP16
footprint DIP16
pins: 1 P3.2/INT0 (io), 2 P1.4/T2_/CAP1_/SCS/TIN2 (io), 3 P1.5/MOSI/PWM1/TIN3 (io), 4 P1.6/MISO/TIN4 (io), 5 P1.7/SCK/TIN5 (io), 6 RST/T2EX_/CAP2_ (in), 7 P3.1/PWM2_/TXD (io), 8 P3.0/PWM1_/RXD (io), 9 P1.1/T2EX/CAP2/TIN1 (io), 10 P3.3/INT1 (io), 11 P3.4/PWM2/T0 (io), 12 P3.6/UDP (io), 13 P3.7/UDM (io), 14 GND/VSS (power), 15 VCC/VDD (power), 16 V33 (power)

## CH552E
designator U?
8bit MCS51 MCU with ADC & SPI & USB device & dual UART
footprint MSOP10
pins: 1 P1.4/T2_/CAP1_/SCS/TIN2/UCC1/AIN1 (io), 2 P1.5/MOSI/PWM1/TIN3/UCC2/AIN2 (io), 3 P1.6/MISO/RXD1/TIN4 (io), 4 P1.7/SCK/TXD1/TIN5 (io), 5 RST/T2EX_/CAP2_ (in), 6 P3.6/UDP (io), 7 P3.7/UDM (io), 8 GND/VSS (power), 9 VCC/VDD (power), 10 V33 (power)

## CH552G
designator U?
8bit MCS51 MCU with ADC & SPI & USB device & dual UART
footprint SOP16
footprint DIP16
pins: 1 P3.2/TXD1_/INT0/VBUS1/AIN3 (io), 2 P1.4/T2_/CAP1_/SCS/TIN2/UCC1/AIN1 (io), 3 P1.5/MOSI/PWM1/TIN3/UCC2/AIN2 (io), 4 P1.6/MISO/RXD1/TIN4 (io), 5 P1.7/SCK/TXD1/TIN5 (io), 6 RST/T2EX_/CAP2_ (in), 7 P3.1/PWM2_/TXD (io), 8 P3.0/PWM1_/RXD (io), 9 P1.1/T2EX/CAP2/TIN1/VBUS2/AIN0 (io), 10 P3.3/INT1 (io), 11 P3.4/PWM2/RXD1_/T0 (io), 12 P3.6/UDP (io), 13 P3.7/UDM (io), 14 GND/VSS (power), 15 VCC/VDD (power), 16 V33 (power)

## CH552P
designator U?
8bit MCS51 MCU with ADC & SPI & USB device & dual UART
footprint QFN16_3X3
pins: 0 GND/VSS (power), 1 V33 (power), 2 P1.5/MOSI/PWM1/TIN3/AIN2 (io), 3 P1.4/T2_/CAP1_/SCS/TIN2/AIN1 (io), 4 P3.2/TXD1_/INT0/VBUS1/AIN3 (io), 5 P1.6/MISO/RXD1/TIN4 (io), 6 P1.7/SCK/TXD1/TIN5 (io), 7 RST/T2EX_/CAP2_ (in), 8 P1.0/T2/CAP1/TIN0 (io), 9 P3.1/PWM2_/TXD (io), 10 P3.0/PWM1_/RXD (io), 11 P1.1/T2EX/CAP2/TIN1/AIN0 (io), 12 P3.3/INT1 (io), 13 P3.4/PWM2/RXD1_/T0 (io), 14 P3.6/UDP (io), 15 P3.7/UDM (io), 16 VCC/VDD (power)

## CH552T
designator U?
8bit MCS51 MCU with ADC & SPI & USB device & dual UART
footprint TSSOP20
footprint DIP20
pins: 1 P3.2/TXD1_/INT0/VBUS1/AIN3 (io), 2 P1.4/T2_/CAP1_/SCS/TIN2/UCC1/AIN1 (io), 3 P1.5/MOSI/PWM1/TIN3/UCC2/AIN2 (io), 4 P1.6/MISO/RXD1/TIN4 (io), 5 P1.7/SCK/TXD1/TIN5 (io), 6 RST/T2EX_/CAP2_ (in), 7 P1.0/T2/CAP1/TIN0 (io), 8 P1.1/T2EX/CAP2/TIN1/VBUS2/AIN0 (io), 9 P3.1/PWM2_/TXD (io), 10 P3.0/PWM1_/RXD (io), 11 P3.3/INT1 (io), 12 P3.4/PWM2/RXD1_/T0 (io), 13 P3.5/T1 (io), 14 P3.6/UDP (io), 15 P3.7/UDM (io), 16 P1.3/XO/TXD_ (io), 17 P1.2/XI/RXD_ (io), 18 GND/VSS (power), 19 VCC/VDD (power), 20 V33 (power)

## CH554E
designator U?
8bit MCS51 MCU with ADC & SPI & USB host & device & dual UART
footprint MSOP10
pins: 1 P1.4/T2_/CAP1_/SCS/TIN2/UCC1/AIN1 (io), 2 P1.5/MOSI/PWM1/TIN3/UCC2/AIN2 (io), 3 P1.6/MISO/RXD1/TIN4 (io), 4 P1.7/SCK/TXD1/TIN5 (io), 5 RST/T2EX_/CAP2_ (in), 6 P3.6/UDP (io), 7 P3.7/UDM (io), 8 GND/VSS (power), 9 VCC/VDD (power), 10 V33 (power)

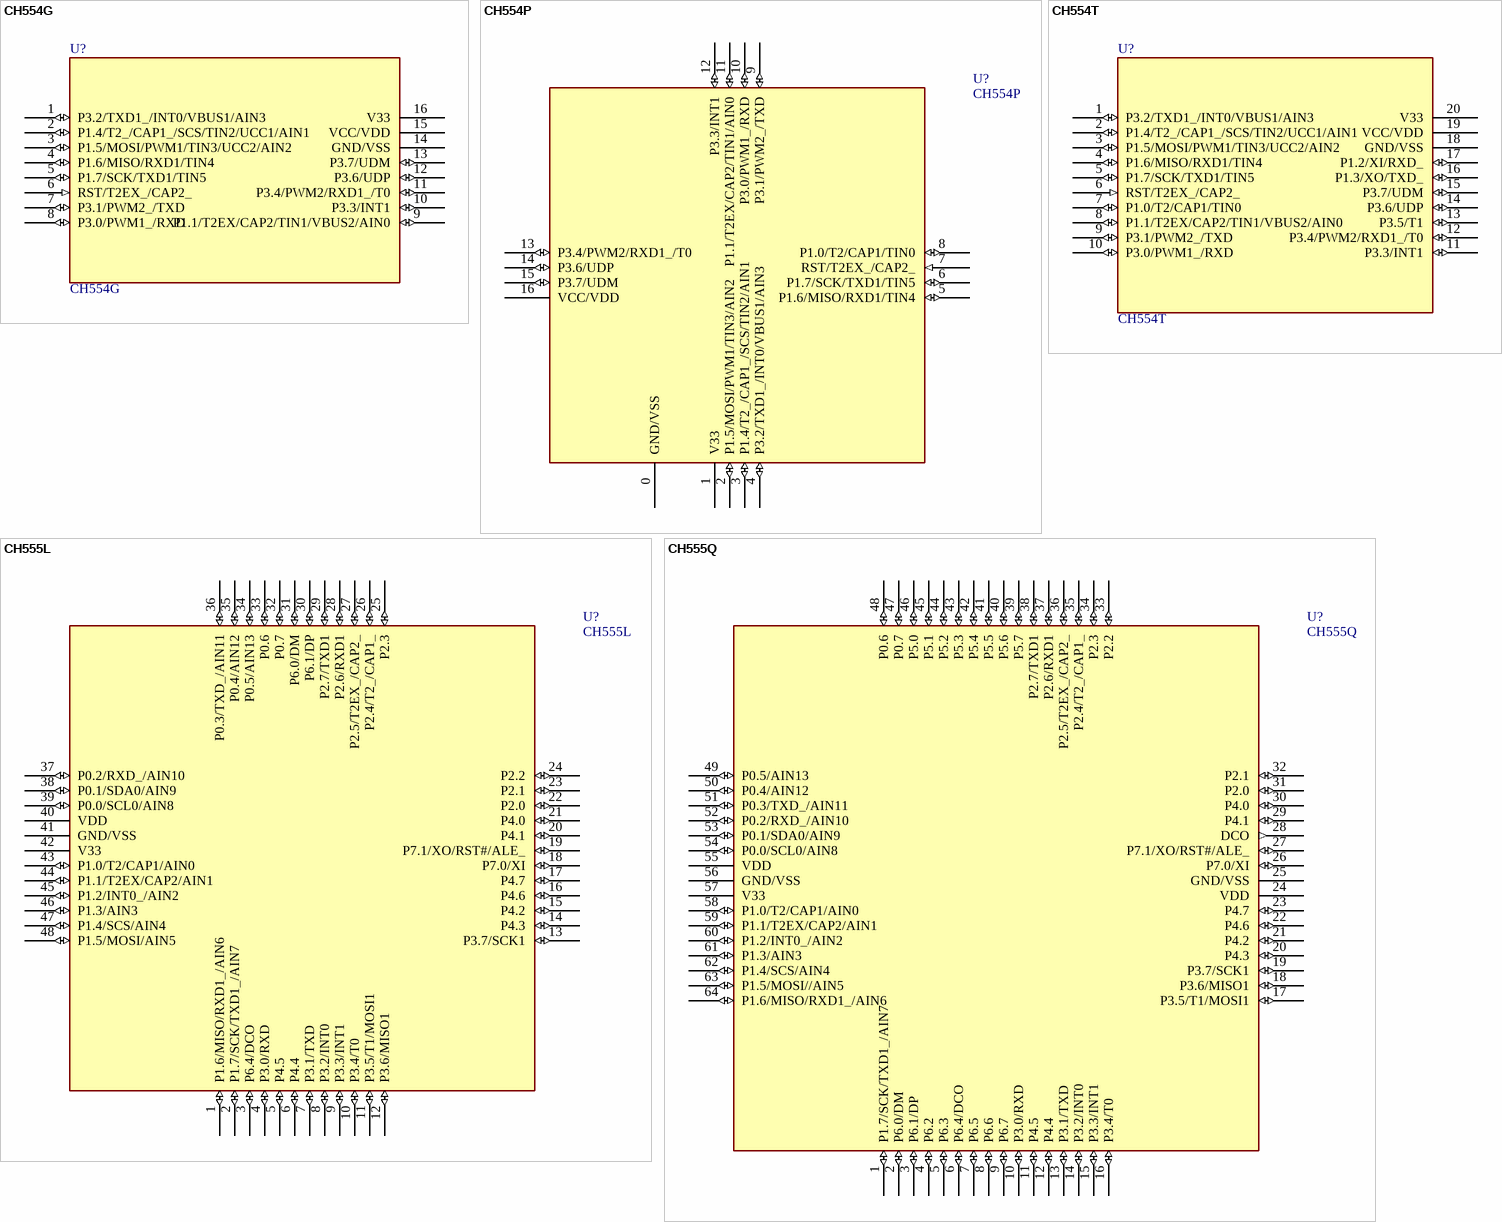
[diagram p40: symbols CH554G to CH555Q]

## CH554G
designator U?
8bit MCS51 MCU with ADC & SPI & USB host & device & dual UART
footprint SOP16
footprint DIP16
pins: 1 P3.2/TXD1_/INT0/VBUS1/AIN3 (io), 2 P1.4/T2_/CAP1_/SCS/TIN2/UCC1/AIN1 (io), 3 P1.5/MOSI/PWM1/TIN3/UCC2/AIN2 (io), 4 P1.6/MISO/RXD1/TIN4 (io), 5 P1.7/SCK/TXD1/TIN5 (io), 6 RST/T2EX_/CAP2_ (in), 7 P3.1/PWM2_/TXD (io), 8 P3.0/PWM1_/RXD (io), 9 P1.1/T2EX/CAP2/TIN1/VBUS2/AIN0 (io), 10 P3.3/INT1 (io), 11 P3.4/PWM2/RXD1_/T0 (io), 12 P3.6/UDP (io), 13 P3.7/UDM (io), 14 GND/VSS (power), 15 VCC/VDD (power), 16 V33 (power)

## CH554P
designator U?
8bit MCS51 MCU with ADC & SPI & USB host & device & dual UART
footprint QFN16_3X3
pins: 0 GND/VSS (power), 1 V33 (power), 2 P1.5/MOSI/PWM1/TIN3/AIN2 (io), 3 P1.4/T2_/CAP1_/SCS/TIN2/AIN1 (io), 4 P3.2/TXD1_/INT0/VBUS1/AIN3 (io), 5 P1.6/MISO/RXD1/TIN4 (io), 6 P1.7/SCK/TXD1/TIN5 (io), 7 RST/T2EX_/CAP2_ (in), 8 P1.0/T2/CAP1/TIN0 (io), 9 P3.1/PWM2_/TXD (io), 10 P3.0/PWM1_/RXD (io), 11 P1.1/T2EX/CAP2/TIN1/AIN0 (io), 12 P3.3/INT1 (io), 13 P3.4/PWM2/RXD1_/T0 (io), 14 P3.6/UDP (io), 15 P3.7/UDM (io), 16 VCC/VDD (power)

## CH554T
designator U?
8bit MCS51 MCU with ADC & SPI & USB host & device & dual UART
footprint TSSOP20
footprint DIP20
pins: 1 P3.2/TXD1_/INT0/VBUS1/AIN3 (io), 2 P1.4/T2_/CAP1_/SCS/TIN2/UCC1/AIN1 (io), 3 P1.5/MOSI/PWM1/TIN3/UCC2/AIN2 (io), 4 P1.6/MISO/RXD1/TIN4 (io), 5 P1.7/SCK/TXD1/TIN5 (io), 6 RST/T2EX_/CAP2_ (in), 7 P1.0/T2/CAP1/TIN0 (io), 8 P1.1/T2EX/CAP2/TIN1/VBUS2/AIN0 (io), 9 P3.1/PWM2_/TXD (io), 10 P3.0/PWM1_/RXD (io), 11 P3.3/INT1 (io), 12 P3.4/PWM2/RXD1_/T0 (io), 13 P3.5/T1 (io), 14 P3.6/UDP (io), 15 P3.7/UDM (io), 16 P1.3/XO/TXD_ (io), 17 P1.2/XI/RXD_ (io), 18 GND/VSS (power), 19 VCC/VDD (power), 20 V33 (power)

## CH555L
designator U?
8bit MCS51 MCU with ADC & USB device & RGB PWM & UART & SPI & I2C
footprint LQFP48
pins: 1 P1.6/MISO/RXD1_/AIN6 (io), 2 P1.7/SCK/TXD1_/AIN7 (io), 3 P6.4/DCO (io), 4 P3.0/RXD (io), 5 P4.5 (io), 6 P4.4 (io), 7 P3.1/TXD (io), 8 P3.2/INT0 (io), 9 P3.3/INT1 (io), 10 P3.4/T0 (io), 11 P3.5/T1/MOSI1 (io), 12 P3.6/MISO1 (io), 13 P3.7/SCK1 (io), 14 P4.3 (io), 15 P4.2 (io), 16 P4.6 (io), 17 P4.7 (io), 18 P7.0/XI (io), 19 P7.1/XO/RST#/ALE_ (io), 20 P4.1 (io), 21 P4.0 (io), 22 P2.0 (io), 23 P2.1 (io), 24 P2.2 (io), 25 P2.3 (io), 26 P2.4/T2_/CAP1_ (io), 27 P2.5/T2EX_/CAP2_ (io), 28 P2.6/RXD1 (io), 29 P2.7/TXD1 (io), 30 P6.1/DP (io), 31 P6.0/DM (io), 32 P0.7 (io), 33 P0.6 (io), 34 P0.5/AIN13 (io), 35 P0.4/AIN12 (io), 36 P0.3/TXD_/AIN11 (io), 37 P0.2/RXD_/AIN10 (io), 38 P0.1/SDA0/AIN9 (io), 39 P0.0/SCL0/AIN8 (io), 40 VDD (power), 41 GND/VSS (power), 42 V33 (power), 43 P1.0/T2/CAP1/AIN0 (io), 44 P1.1/T2EX/CAP2/AIN1 (io), 45 P1.2/INT0_/AIN2 (io), 46 P1.3/AIN3 (io), 47 P1.4/SCS/AIN4 (io), 48 P1.5/MOSI/AIN5 (io)

## CH555Q
designator U?
8bit MCS51 MCU with ADC & USB device & RGB PWM & UART & SPI & I2C
footprint LQFP64
pins: 1 P1.7/SCK/TXD1_/AIN7 (io), 2 P6.0/DM (io), 3 P6.1/DP (io), 4 P6.2 (io), 5 P6.3 (io), 6 P6.4/DCO (io), 7 P6.5 (io), 8 P6.6 (io), 9 P6.7 (io), 10 P3.0/RXD (io), 11 P4.5 (io), 12 P4.4 (io), 13 P3.1/TXD (io), 14 P3.2/INT0 (io), 15 P3.3/INT1 (io), 16 P3.4/T0 (io), 17 P3.5/T1/MOSI1 (io), 18 P3.6/MISO1 (io), 19 P3.7/SCK1 (io), 20 P4.3 (io), 21 P4.2 (io), 22 P4.6 (io), 23 P4.7 (io), 24 VDD (power), 25 GND/VSS (power), 26 P7.0/XI (io), 27 P7.1/XO/RST#/ALE_ (io), 28 DCO (out), 29 P4.1 (io), 30 P4.0 (io), 31 P2.0 (io), 32 P2.1 (io), 33 P2.2 (io), 34 P2.3 (io), 35 P2.4/T2_/CAP1_ (io), 36 P2.5/T2EX_/CAP2_ (io), 37 P2.6/RXD1 (io), 38 P2.7/TXD1 (io), 39 P5.7 (io), 40 P5.6 (io), 41 P5.5 (io), 42 P5.4 (io), 43 P5.3 (io), 44 P5.2 (io), 45 P5.1 (io), 46 P5.0 (io), 47 P0.7 (io), 48 P0.6 (io), 49 P0.5/AIN13 (io), 50 P0.4/AIN12 (io), 51 P0.3/TXD_/AIN11 (io), 52 P0.2/RXD_/AIN10 (io), 53 P0.1/SDA0/AIN9 (io), 54 P0.0/SCL0/AIN8 (io), 55 VDD (power), 56 GND/VSS (power), 57 V33 (power), 58 P1.0/T2/CAP1/AIN0 (io), 59 P1.1/T2EX/CAP2/AIN1 (io), 60 P1.2/INT0_/AIN2 (io), 61 P1.3/AIN3 (io), 62 P1.4/SCS/AIN4 (io), 63 P1.5/MOSI//AIN5 (io), 64 P1.6/MISO/RXD1_/AIN6 (io)

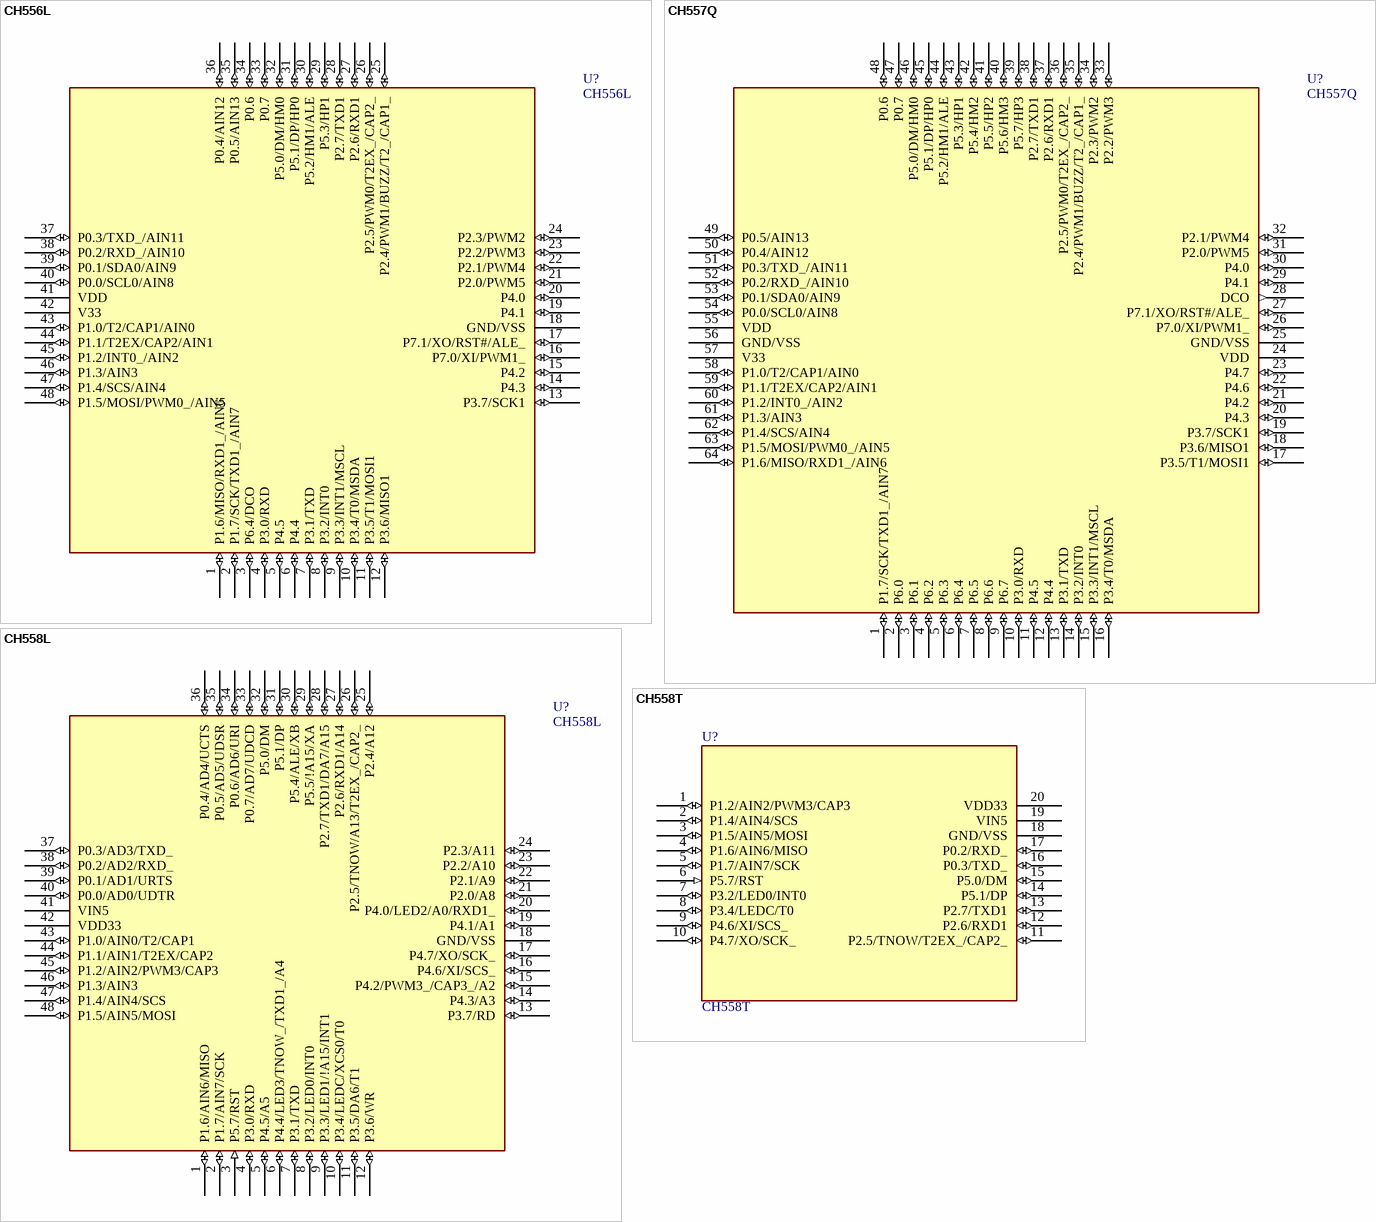
[diagram p41: symbols CH556L to CH558T]

## CH556L
designator U?
8bit MCS51 MCU with ADC & USB host 2 ports & device & dual UART & SPI & I2C
footprint LQFP48
pins: 1 P1.6/MISO/RXD1_/AIN6 (io), 2 P1.7/SCK/TXD1_/AIN7 (io), 3 P6.4/DCO (io), 4 P3.0/RXD (io), 5 P4.5 (io), 6 P4.4 (io), 7 P3.1/TXD (io), 8 P3.2/INT0 (io), 9 P3.3/INT1/MSCL (io), 10 P3.4/T0/MSDA (io), 11 P3.5/T1/MOSI1 (io), 12 P3.6/MISO1 (io), 13 P3.7/SCK1 (io), 14 P4.3 (io), 15 P4.2 (io), 16 P7.0/XI/PWM1_ (io), 17 P7.1/XO/RST#/ALE_ (io), 18 GND/VSS (power), 19 P4.1 (io), 20 P4.0 (io), 21 P2.0/PWM5 (io), 22 P2.1/PWM4 (io), 23 P2.2/PWM3 (io), 24 P2.3/PWM2 (io), 25 P2.4/PWM1/BUZZ/T2_/CAP1_ (io), 26 P2.5/PWM0/T2EX_/CAP2_ (io), 27 P2.6/RXD1 (io), 28 P2.7/TXD1 (io), 29 P5.3/HP1 (io), 30 P5.2/HM1/ALE (io), 31 P5.1/DP/HP0 (io), 32 P5.0/DM/HM0 (io), 33 P0.7 (io), 34 P0.6 (io), 35 P0.5/AIN13 (io), 36 P0.4/AIN12 (io), 37 P0.3/TXD_/AIN11 (io), 38 P0.2/RXD_/AIN10 (io), 39 P0.1/SDA0/AIN9 (io), 40 P0.0/SCL0/AIN8 (io), 41 VDD (power), 42 V33 (power), 43 P1.0/T2/CAP1/AIN0 (io), 44 P1.1/T2EX/CAP2/AIN1 (io), 45 P1.2/INT0_/AIN2 (io), 46 P1.3/AIN3 (io), 47 P1.4/SCS/AIN4 (io), 48 P1.5/MOSI/PWM0_/AIN5 (io)

## CH557Q
designator U?
8bit MCS51 MCU with ADC & USB host 4 ports & USB device & RGB PWM & dual UART & SPI & I2C
footprint LQFP64
pins: 1 P1.7/SCK/TXD1_/AIN7 (io), 2 P6.0 (io), 3 P6.1 (io), 4 P6.2 (io), 5 P6.3 (io), 6 P6.4 (io), 7 P6.5 (io), 8 P6.6 (io), 9 P6.7 (io), 10 P3.0/RXD (io), 11 P4.5 (io), 12 P4.4 (io), 13 P3.1/TXD (io), 14 P3.2/INT0 (io), 15 P3.3/INT1/MSCL (io), 16 P3.4/T0/MSDA (io), 17 P3.5/T1/MOSI1 (io), 18 P3.6/MISO1 (io), 19 P3.7/SCK1 (io), 20 P4.3 (io), 21 P4.2 (io), 22 P4.6 (io), 23 P4.7 (io), 24 VDD (power), 25 GND/VSS (power), 26 P7.0/XI/PWM1_ (io), 27 P7.1/XO/RST#/ALE_ (io), 28 DCO (out), 29 P4.1 (io), 30 P4.0 (io), 31 P2.0/PWM5 (io), 32 P2.1/PWM4 (io), 33 P2.2/PWM3 (io), 34 P2.3/PWM2 (io), 35 P2.4/PWM1/BUZZ/T2_/CAP1_ (io), 36 P2.5/PWM0/T2EX_/CAP2_ (io), 37 P2.6/RXD1 (io), 38 P2.7/TXD1 (io), 39 P5.7/HP3 (io), 40 P5.6/HM3 (io), 41 P5.5/HP2 (io), 42 P5.4/HM2 (io), 43 P5.3/HP1 (io), 44 P5.2/HM1/ALE (io), 45 P5.1/DP/HP0 (io), 46 P5.0/DM/HM0 (io), 47 P0.7 (io), 48 P0.6 (io), 49 P0.5/AIN13 (io), 50 P0.4/AIN12 (io), 51 P0.3/TXD_/AIN11 (io), 52 P0.2/RXD_/AIN10 (io), 53 P0.1/SDA0/AIN9 (io), 54 P0.0/SCL0/AIN8 (io), 55 VDD (power), 56 GND/VSS (power), 57 V33 (power), 58 P1.0/T2/CAP1/AIN0 (io), 59 P1.1/T2EX/CAP2/AIN1 (io), 60 P1.2/INT0_/AIN2 (io), 61 P1.3/AIN3 (io), 62 P1.4/SCS/AIN4 (io), 63 P1.5/MOSI/PWM0_/AIN5 (io), 64 P1.6/MISO/RXD1_/AIN6 (io)

## CH558L
designator U?
8bit MCS51 MCU with ADC & SPI & USB device & dual UART
footprint LQFP48
pins: 1 P1.6/AIN6/MISO (io), 2 P1.7/AIN7/SCK (io), 3 P5.7/RST (in), 4 P3.0/RXD (io), 5 P4.5/A5 (io), 6 P4.4/LED3/TNOW_/TXD1_/A4 (io), 7 P3.1/TXD (io), 8 P3.2/LED0/INT0 (io), 9 P3.3/LED1/!A15/INT1 (io), 10 P3.4/LEDC/XCS0/T0 (io), 11 P3.5/DA6/T1 (io), 12 P3.6/WR (io), 13 P3.7/RD (io), 14 P4.3/A3 (io), 15 P4.2/PWM3_/CAP3_/A2 (io), 16 P4.6/XI/SCS_ (io), 17 P4.7/XO/SCK_ (io), 18 GND/VSS (power), 19 P4.1/A1 (io), 20 P4.0/LED2/A0/RXD1_ (io), 21 P2.0/A8 (io), 22 P2.1/A9 (io), 23 P2.2/A10 (io), 24 P2.3/A11 (io), 25 P2.4/A12 (io), 26 P2.5/TNOW/A13/T2EX_/CAP2_ (io), 27 P2.6/RXD1/A14 (io), 28 P2.7/TXD1/DA7/A15 (io), 29 P5.5/!A15/XA (io), 30 P5.4/ALE/XB (io), 31 P5.1/DP (io), 32 P5.0/DM (io), 33 P0.7/AD7/UDCD (io), 34 P0.6/AD6/URI (io), 35 P0.5/AD5/UDSR (io), 36 P0.4/AD4/UCTS (io), 37 P0.3/AD3/TXD_ (io), 38 P0.2/AD2/RXD_ (io), 39 P0.1/AD1/URTS (io), 40 P0.0/AD0/UDTR (io), 41 VIN5 (power), 42 VDD33 (power), 43 P1.0/AIN0/T2/CAP1 (io), 44 P1.1/AIN1/T2EX/CAP2 (io), 45 P1.2/AIN2/PWM3/CAP3 (io), 46 P1.3/AIN3 (io), 47 P1.4/AIN4/SCS (io), 48 P1.5/AIN5/MOSI (io)

## CH558T
designator U?
8bit MCS51 MCU with ADC & SPI & USB device & dual UART
footprint SSOP20
footprint DIP20
pins: 1 P1.2/AIN2/PWM3/CAP3 (io), 2 P1.4/AIN4/SCS (io), 3 P1.5/AIN5/MOSI (io), 4 P1.6/AIN6/MISO (io), 5 P1.7/AIN7/SCK (io), 6 P5.7/RST (in), 7 P3.2/LED0/INT0 (io), 8 P3.4/LEDC/T0 (io), 9 P4.6/XI/SCS_ (io), 10 P4.7/XO/SCK_ (io), 11 P2.5/TNOW/T2EX_/CAP2_ (io), 12 P2.6/RXD1 (io), 13 P2.7/TXD1 (io), 14 P5.1/DP (io), 15 P5.0/DM (io), 16 P0.3/TXD_ (io), 17 P0.2/RXD_ (io), 18 GND/VSS (power), 19 VIN5 (power), 20 VDD33 (power)

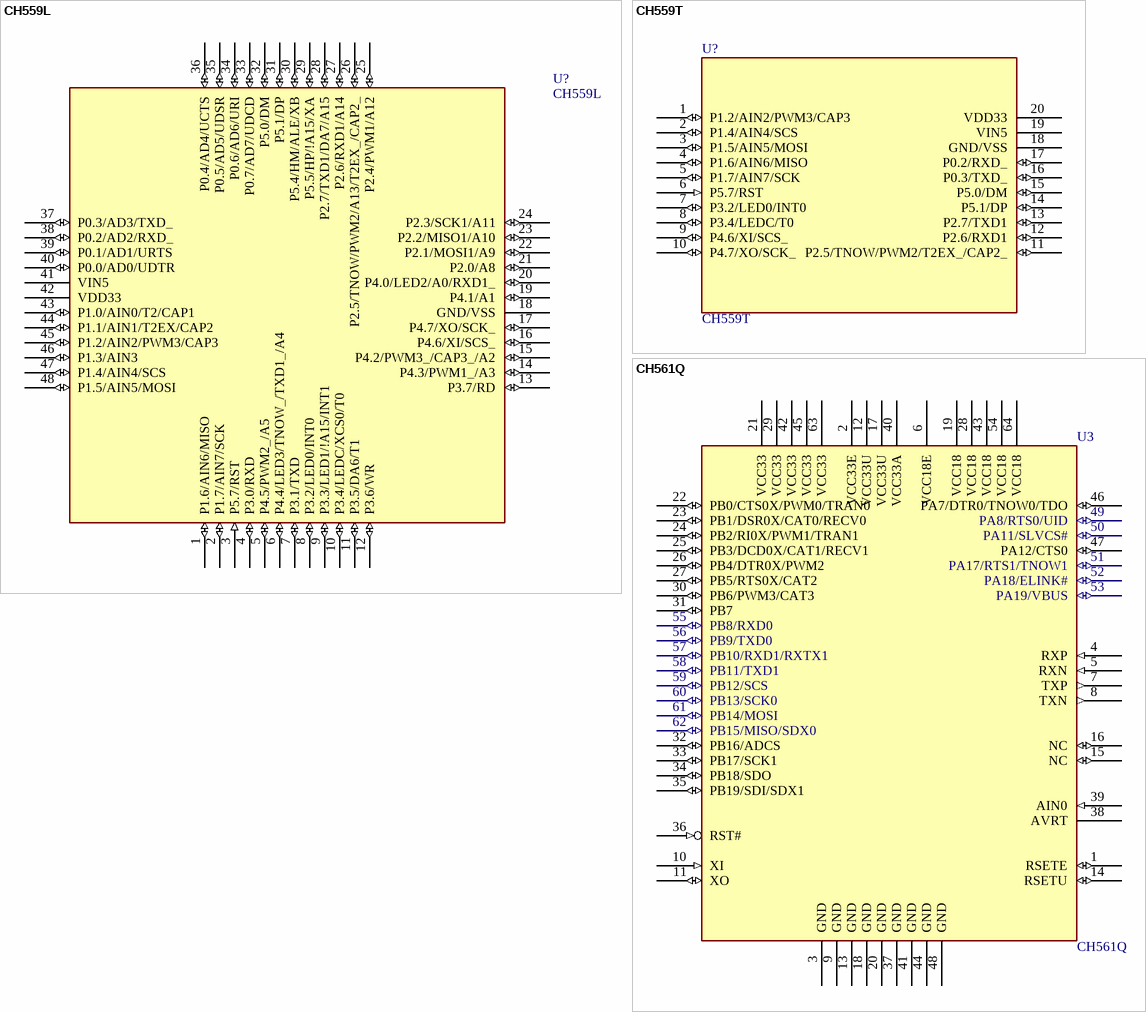
[diagram p42: symbols CH559L to CH561Q]

## CH559L
designator U?
8bit MCS51 MCU with ADC & SPI & 2 * USB host & device & dual UART
footprint LQFP48
pins: 1 P1.6/AIN6/MISO (io), 2 P1.7/AIN7/SCK (io), 3 P5.7/RST (in), 4 P3.0/RXD (io), 5 P4.5/PWM2_/A5 (io), 6 P4.4/LED3/TNOW_/TXD1_/A4 (io), 7 P3.1/TXD (io), 8 P3.2/LED0/INT0 (io), 9 P3.3/LED1/!A15/INT1 (io), 10 P3.4/LEDC/XCS0/T0 (io), 11 P3.5/DA6/T1 (io), 12 P3.6/WR (io), 13 P3.7/RD (io), 14 P4.3/PWM1_/A3 (io), 15 P4.2/PWM3_/CAP3_/A2 (io), 16 P4.6/XI/SCS_ (io), 17 P4.7/XO/SCK_ (io), 18 GND/VSS (power), 19 P4.1/A1 (io), 20 P4.0/LED2/A0/RXD1_ (io), 21 P2.0/A8 (io), 22 P2.1/MOSI1/A9 (io), 23 P2.2/MISO1/A10 (io), 24 P2.3/SCK1/A11 (io), 25 P2.4/PWM1/A12 (io), 26 P2.5/TNOW/PWM2/A13/T2EX_/CAP2_ (io), 27 P2.6/RXD1/A14 (io), 28 P2.7/TXD1/DA7/A15 (io), 29 P5.5/HP/!A15/XA (io), 30 P5.4/HM/ALE/XB (io), 31 P5.1/DP (io), 32 P5.0/DM (io), 33 P0.7/AD7/UDCD (io), 34 P0.6/AD6/URI (io), 35 P0.5/AD5/UDSR (io), 36 P0.4/AD4/UCTS (io), 37 P0.3/AD3/TXD_ (io), 38 P0.2/AD2/RXD_ (io), 39 P0.1/AD1/URTS (io), 40 P0.0/AD0/UDTR (io), 41 VIN5 (power), 42 VDD33 (power), 43 P1.0/AIN0/T2/CAP1 (io), 44 P1.1/AIN1/T2EX/CAP2 (io), 45 P1.2/AIN2/PWM3/CAP3 (io), 46 P1.3/AIN3 (io), 47 P1.4/AIN4/SCS (io), 48 P1.5/AIN5/MOSI (io)

## CH559T
designator U?
8bit MCS51 MCU with ADC & SPI & USB host & device & dual UART
footprint SSOP20
footprint DIP20
pins: 1 P1.2/AIN2/PWM3/CAP3 (io), 2 P1.4/AIN4/SCS (io), 3 P1.5/AIN5/MOSI (io), 4 P1.6/AIN6/MISO (io), 5 P1.7/AIN7/SCK (io), 6 P5.7/RST (in), 7 P3.2/LED0/INT0 (io), 8 P3.4/LEDC/T0 (io), 9 P4.6/XI/SCS_ (io), 10 P4.7/XO/SCK_ (io), 11 P2.5/TNOW/PWM2/T2EX_/CAP2_ (io), 12 P2.6/RXD1 (io), 13 P2.7/TXD1 (io), 14 P5.1/DP (io), 15 P5.0/DM (io), 16 P0.3/TXD_ (io), 17 P0.2/RXD_ (io), 18 GND/VSS (power), 19 VIN5 (power), 20 VDD33 (power)

## CH561Q
designator U3
32bit MCU with 100Mbps Ethernet
footprint LQFP64M_10X10
pins: 1 RSETE (io), 2 VCC33E (power), 3 GND (power), 4 RXP (in), 5 RXN (in), 6 VCC18E (power), 7 TXP (out), 8 TXN (out), 9 GND (power), 10 XI (in), 11 XO (io), 12 VCC33U (power), 13 GND (power), 14 RSETU (io), 15 NC (io), 16 NC (io), 17 VCC33U (power), 18 GND (power), 19 VCC18 (power), 20 GND (power), 21 VCC33 (power), 22 PB0/CTS0X/PWM0/TRAN0 (io), 23 PB1/DSR0X/CAT0/RECV0 (io), 24 PB2/RI0X/PWM1/TRAN1 (io), 25 PB3/DCD0X/CAT1/RECV1 (io), 26 PB4/DTR0X/PWM2 (io), 27 PB5/RTS0X/CAT2 (io), 28 VCC18 (power), 29 VCC33 (power), 30 PB6/PWM3/CAT3 (io), 31 PB7 (io), 32 PB16/ADCS (io), 33 PB17/SCK1 (io), 34 PB18/SDO (io), 35 PB19/SDI/SDX1 (io), 36 RST# (in), 37 GND (power), 38 AVRT (power), 39 AIN0 (in), 40 VCC33A (power), 41 GND (power), 42 VCC33 (power), 43 VCC18 (power), 44 GND (power), 45 VCC33 (power), 46 PA7/DTR0/TNOW0/TDO (io), 47 PA12/CTS0 (io), 48 GND (power), 49 PA8/RTS0/UID (io), 50 PA11/SLVCS# (io), 51 PA17/RTS1/TNOW1 (io), 52 PA18/ELINK# (io), 53 PA19/VBUS (io), 54 VCC18 (power), 55 PB8/RXD0 (io), 56 PB9/TXD0 (io), 57 PB10/RXD1/RXTX1 (io), 58 PB11/TXD1 (io), 59 PB12/SCS (io), 60 PB13/SCK0 (io), 61 PB14/MOSI (io), 62 PB15/MISO/SDX0 (io), 63 VCC33 (power), 64 VCC18 (power)

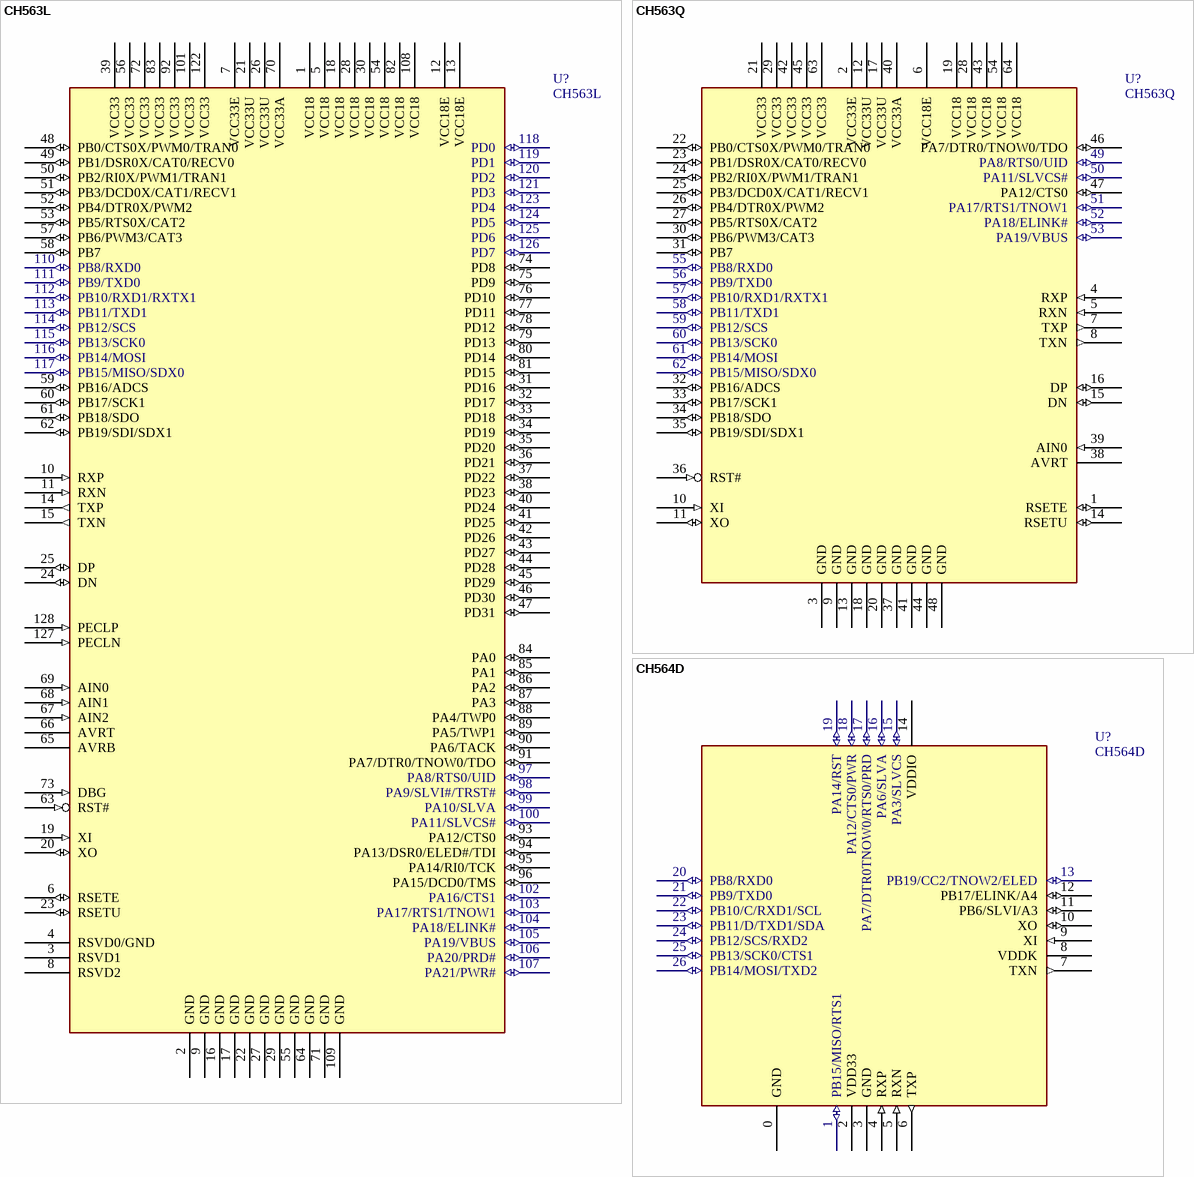
[diagram p43: symbols CH563L to CH564D]

## CH563L
designator U?
32bit MCU with USB OTG 2.0 & 100Mbps Ethernet
footprint LQFP128
pins: 1 VCC18 (power), 2 GND (power), 3 RSVD1, 4 RSVD0/GND (power), 5 VCC18 (power), 6 RSETE (io), 7 VCC33E (power), 8 RSVD2, 9 GND (power), 10 RXP (in), 11 RXN (in), 12 VCC18E (power), 13 VCC18E (power), 14 TXP (out), 15 TXN (out), 16 GND (power), 17 GND (power), 18 VCC18 (power), 19 XI (in), 20 XO (io), 21 VCC33U (power), 22 GND (power), 23 RSETU (io), 24 DN (io), 25 DP (io), 26 VCC33U (power), 27 GND (power), 28 VCC18 (power), 29 GND (power), 30 VCC18 (power), 31 PD16 (io), 32 PD17 (io), 33 PD18 (io), 34 PD19 (io), 35 PD20 (io), 36 PD21 (io), 37 PD22 (io), 38 PD23 (io), 39 VCC33 (power), 40 PD24 (io), 41 PD25 (io), 42 PD26 (io), 43 PD27 (io), 44 PD28 (io), 45 PD29 (io), 46 PD30 (io), 47 PD31 (io), 48 PB0/CTS0X/PWM0/TRAN0 (io), 49 PB1/DSR0X/CAT0/RECV0 (io), 50 PB2/RI0X/PWM1/TRAN1 (io), 51 PB3/DCD0X/CAT1/RECV1 (io), 52 PB4/DTR0X/PWM2 (io), 53 PB5/RTS0X/CAT2 (io), 54 VCC18 (power), 55 GND (power), 56 VCC33 (power), 57 PB6/PWM3/CAT3 (io), 58 PB7 (io), 59 PB16/ADCS (io), 60 PB17/SCK1 (io), 61 PB18/SDO (io), 62 PB19/SDI/SDX1 (io), 63 RST# (in), 64 GND (power), 65 AVRB (power), 66 AVRT (power), 67 AIN2 (in), 68 AIN1 (in), 69 AIN0 (in), 70 VCC33A (power), 71 GND (power), 72 VCC33 (power), 73 DBG (in), 74 PD8 (io), 75 PD9 (io), 76 PD10 (io), 77 PD11 (io), 78 PD12 (io), 79 PD13 (io), 80 PD14 (io), 81 PD15 (io), 82 VCC18 (power), 83 VCC33 (power), 84 PA0 (io), 85 PA1 (io), 86 PA2 (io), 87 PA3 (io), 88 PA4/TWP0 (io), 89 PA5/TWP1 (io), 90 PA6/TACK (io), 91 PA7/DTR0/TNOW0/TDO (io), 92 VCC33 (power), 93 PA12/CTS0 (io), 94 PA13/DSR0/ELED#/TDI (io), 95 PA14/RI0/TCK (io), 96 PA15/DCD0/TMS (io), 97 PA8/RTS0/UID (io), 98 PA9/SLVI#/TRST# (io), 99 PA10/SLVA (io), 100 PA11/SLVCS# (io), 101 VCC33 (power), 102 PA16/CTS1 (io), 103 PA17/RTS1/TNOW1 (io), 104 PA18/ELINK# (io), 105 PA19/VBUS (io), 106 PA20/PRD# (io), 107 PA21/PWR# (io), 108 VCC18 (power), 109 GND (power), 110 PB8/RXD0 (io), 111 PB9/TXD0 (io), 112 PB10/RXD1/RXTX1 (io), 113 PB11/TXD1 (io), 114 PB12/SCS (io), 115 PB13/SCK0 (io), 116 PB14/MOSI (io), 117 PB15/MISO/SDX0 (io), 118 PD0 (io), 119 PD1 (io), 120 PD2 (io), 121 PD3 (io), 122 VCC33 (power), 123 PD4 (io), 124 PD5 (io), 125 PD6 (io), 126 PD7 (io), 127 PECLN (in), 128 PECLP (in)

## CH563Q
designator U?
32bit MCU with USB OTG 2.0 & 100Mbps Ethernet
footprint LQFP64M_10X10
pins: 1 RSETE (io), 2 VCC33E (power), 3 GND (power), 4 RXP (in), 5 RXN (in), 6 VCC18E (power), 7 TXP (out), 8 TXN (out), 9 GND (power), 10 XI (in), 11 XO (io), 12 VCC33U (power), 13 GND (power), 14 RSETU (io), 15 DN (io), 16 DP (io), 17 VCC33U (power), 18 GND (power), 19 VCC18 (power), 20 GND (power), 21 VCC33 (power), 22 PB0/CTS0X/PWM0/TRAN0 (io), 23 PB1/DSR0X/CAT0/RECV0 (io), 24 PB2/RI0X/PWM1/TRAN1 (io), 25 PB3/DCD0X/CAT1/RECV1 (io), 26 PB4/DTR0X/PWM2 (io), 27 PB5/RTS0X/CAT2 (io), 28 VCC18 (power), 29 VCC33 (power), 30 PB6/PWM3/CAT3 (io), 31 PB7 (io), 32 PB16/ADCS (io), 33 PB17/SCK1 (io), 34 PB18/SDO (io), 35 PB19/SDI/SDX1 (io), 36 RST# (in), 37 GND (power), 38 AVRT (power), 39 AIN0 (in), 40 VCC33A (power), 41 GND (power), 42 VCC33 (power), 43 VCC18 (power), 44 GND (power), 45 VCC33 (power), 46 PA7/DTR0/TNOW0/TDO (io), 47 PA12/CTS0 (io), 48 GND (power), 49 PA8/RTS0/UID (io), 50 PA11/SLVCS# (io), 51 PA17/RTS1/TNOW1 (io), 52 PA18/ELINK# (io), 53 PA19/VBUS (io), 54 VCC18 (power), 55 PB8/RXD0 (io), 56 PB9/TXD0 (io), 57 PB10/RXD1/RXTX1 (io), 58 PB11/TXD1 (io), 59 PB12/SCS (io), 60 PB13/SCK0 (io), 61 PB14/MOSI (io), 62 PB15/MISO/SDX0 (io), 63 VCC33 (power), 64 VCC18 (power)

## CH564D
designator U?
RISC-V MCU with USB OTG 2.0 & 100Mbps Ethernet
footprint QFN26C_3X3
pins: 0 GND (power), 1 PB15/MISO/RTS1 (io), 2 VDD33 (power), 3 GND (power), 4 RXP (in), 5 RXN (in), 6 TXP (out), 7 TXN (out), 8 VDDK (power), 9 XI (in), 10 XO (io), 11 PB6/SLVI/A3 (io), 12 PB17/ELINK/A4 (io), 13 PB19/CC2/TNOW2/ELED (io), 14 VDDIO (power), 15 PA3/SLVCS (io), 16 PA6/SLVA (io), 17 PA7/DTR0TNOW0/RTS0/PRD (io), 18 PA12/CTS0/PWR (io), 19 PA14/RST (io), 20 PB8/RXD0 (io), 21 PB9/TXD0 (io), 22 PB10/C/RXD1/SCL (io), 23 PB11/D/TXD1/SDA (io), 24 PB12/SCS/RXD2 (io), 25 PB13/SCK0/CTS1 (io), 26 PB14/MOSI/TXD2 (io)
2 alternate drawings of the same symbol

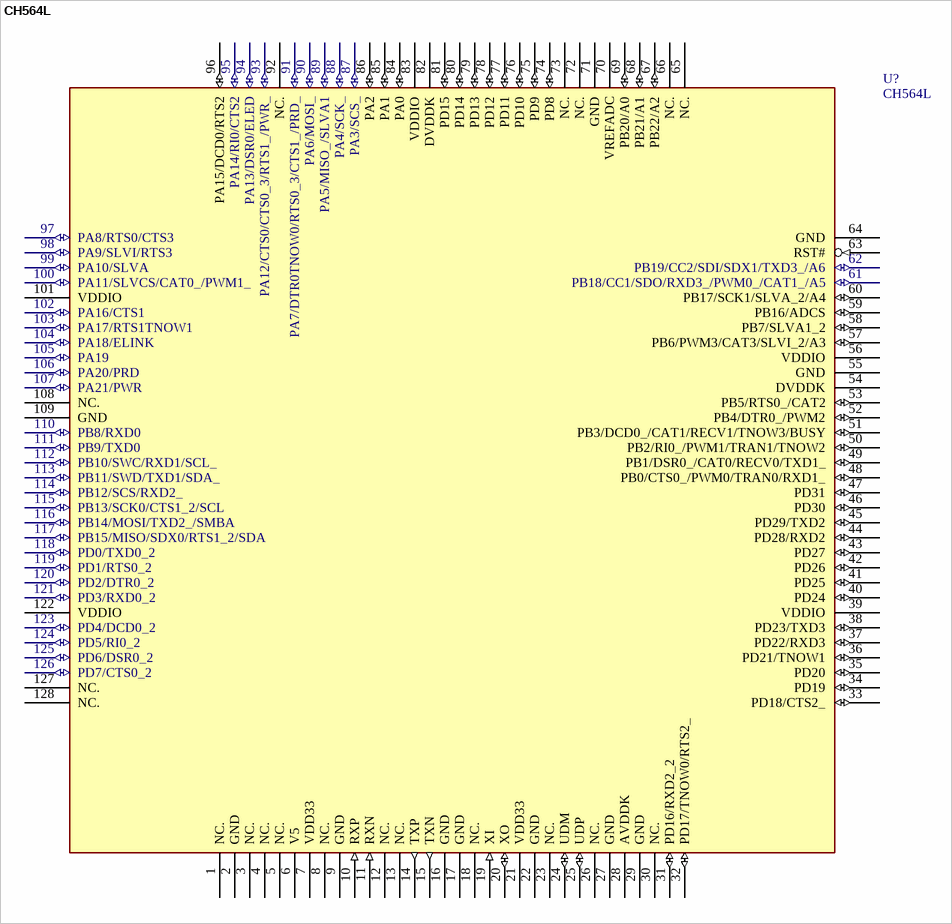
[diagram p44: symbol CH564L]

## CH564L
designator U?
RISC-V MCU with USB OTG 2.0 & 100Mbps Ethernet
footprint LQFP128
pins: 1 NC., 2 GND (power), 3 NC., 4 NC., 5 NC., 6 V5 (power), 7 VDD33 (power), 8 NC., 9 GND (power), 10 RXP (in), 11 RXN (in), 12 NC., 13 NC., 14 TXP (out), 15 TXN (out), 16 GND (power), 17 GND (power), 18 NC., 19 XI (in), 20 XO (io), 21 VDD33 (power), 22 GND (power), 23 NC., 24 UDM (io), 25 UDP (io), 26 NC., 27 GND (power), 28 AVDDK (power), 29 GND (power), 30 NC., 31 PD16/RXD2_2 (io), 32 PD17/TNOW0/RTS2_ (io), 33 PD18/CTS2_ (io), 34 PD19 (io), 35 PD20 (io), 36 PD21/TNOW1 (io), 37 PD22/RXD3 (io), 38 PD23/TXD3 (io), 39 VDDIO (power), 40 PD24 (io), 41 PD25 (io), 42 PD26 (io), 43 PD27 (io), 44 PD28/RXD2 (io), 45 PD29/TXD2 (io), 46 PD30 (io), 47 PD31 (io), 48 PB0/CTS0_/PWM0/TRAN0/RXD1_ (io), 49 PB1/DSR0_/CAT0/RECV0/TXD1_ (io), 50 PB2/RI0_/PWM1/TRAN1/TNOW2 (io), 51 PB3/DCD0_/CAT1/RECV1/TNOW3/BUSY (io), 52 PB4/DTR0_/PWM2 (io), 53 PB5/RTS0_/CAT2 (io), 54 DVDDK (power), 55 GND (power), 56 VDDIO (power), 57 PB6/PWM3/CAT3/SLVI_2/A3 (io), 58 PB7/SLVA1_2 (io), 59 PB16/ADCS (io), 60 PB17/SCK1/SLVA_2/A4 (io), 61 PB18/CC1/SDO/RXD3_/PWM0_/CAT1_/A5 (io), 62 PB19/CC2/SDI/SDX1/TXD3_/A6 (io), 63 RST# (in), 64 GND (power), 65 NC., 66 NC., 67 PB22/A2 (io), 68 PB21/A1 (io), 69 PB20/A0 (io), 70 VREFADC (power), 71 GND (power), 72 NC., 73 NC., 74 PD8 (io), 75 PD9 (io), 76 PD10 (io), 77 PD11 (io), 78 PD12 (io), 79 PD13 (io), 80 PD14 (io), 81 PD15 (io), 82 DVDDK (power), 83 VDDIO (power), 84 PA0 (io), 85 PA1 (io), 86 PA2 (io), 87 PA3/SCS_ (io), 88 PA4/SCK_ (io), 89 PA5/MISO_/SLVA1 (io), 90 PA6/MOSI_ (io), 91 PA7/DTR0TNOW0/RTS0_3/CTS1_/PRD_ (io), 92 NC., 93 PA12/CTS0/CTS0_3/RTS1_/PWR_ (io), 94 PA13/DSR0/ELED (io), 95 PA14/RI0/CTS2 (io), 96 PA15/DCD0/RTS2 (io), 97 PA8/RTS0/CTS3 (io), 98 PA9/SLVI/RTS3 (io), 99 PA10/SLVA (io), 100 PA11/SLVCS/CAT0_/PWM1_ (io), 101 VDDIO (power), 102 PA16/CTS1 (io), 103 PA17/RTS1TNOW1 (io), 104 PA18/ELINK (io), 105 PA19 (io), 106 PA20/PRD (io), 107 PA21/PWR (io), 108 NC., 109 GND (power), 110 PB8/RXD0 (io), 111 PB9/TXD0 (io), 112 PB10/SWC/RXD1/SCL_ (io), 113 PB11/SWD/TXD1/SDA_ (io), 114 PB12/SCS/RXD2_ (io), 115 PB13/SCK0/CTS1_2/SCL (io), 116 PB14/MOSI/TXD2_/SMBA (io), 117 PB15/MISO/SDX0/RTS1_2/SDA (io), 118 PD0/TXD0_2 (io), 119 PD1/RTS0_2 (io), 120 PD2/DTR0_2 (io), 121 PD3/RXD0_2 (io), 122 VDDIO (power), 123 PD4/DCD0_2 (io), 124 PD5/RI0_2 (io), 125 PD6/DSR0_2 (io), 126 PD7/CTS0_2 (io), 127 NC., 128 NC.
2 alternate drawings of the same symbol

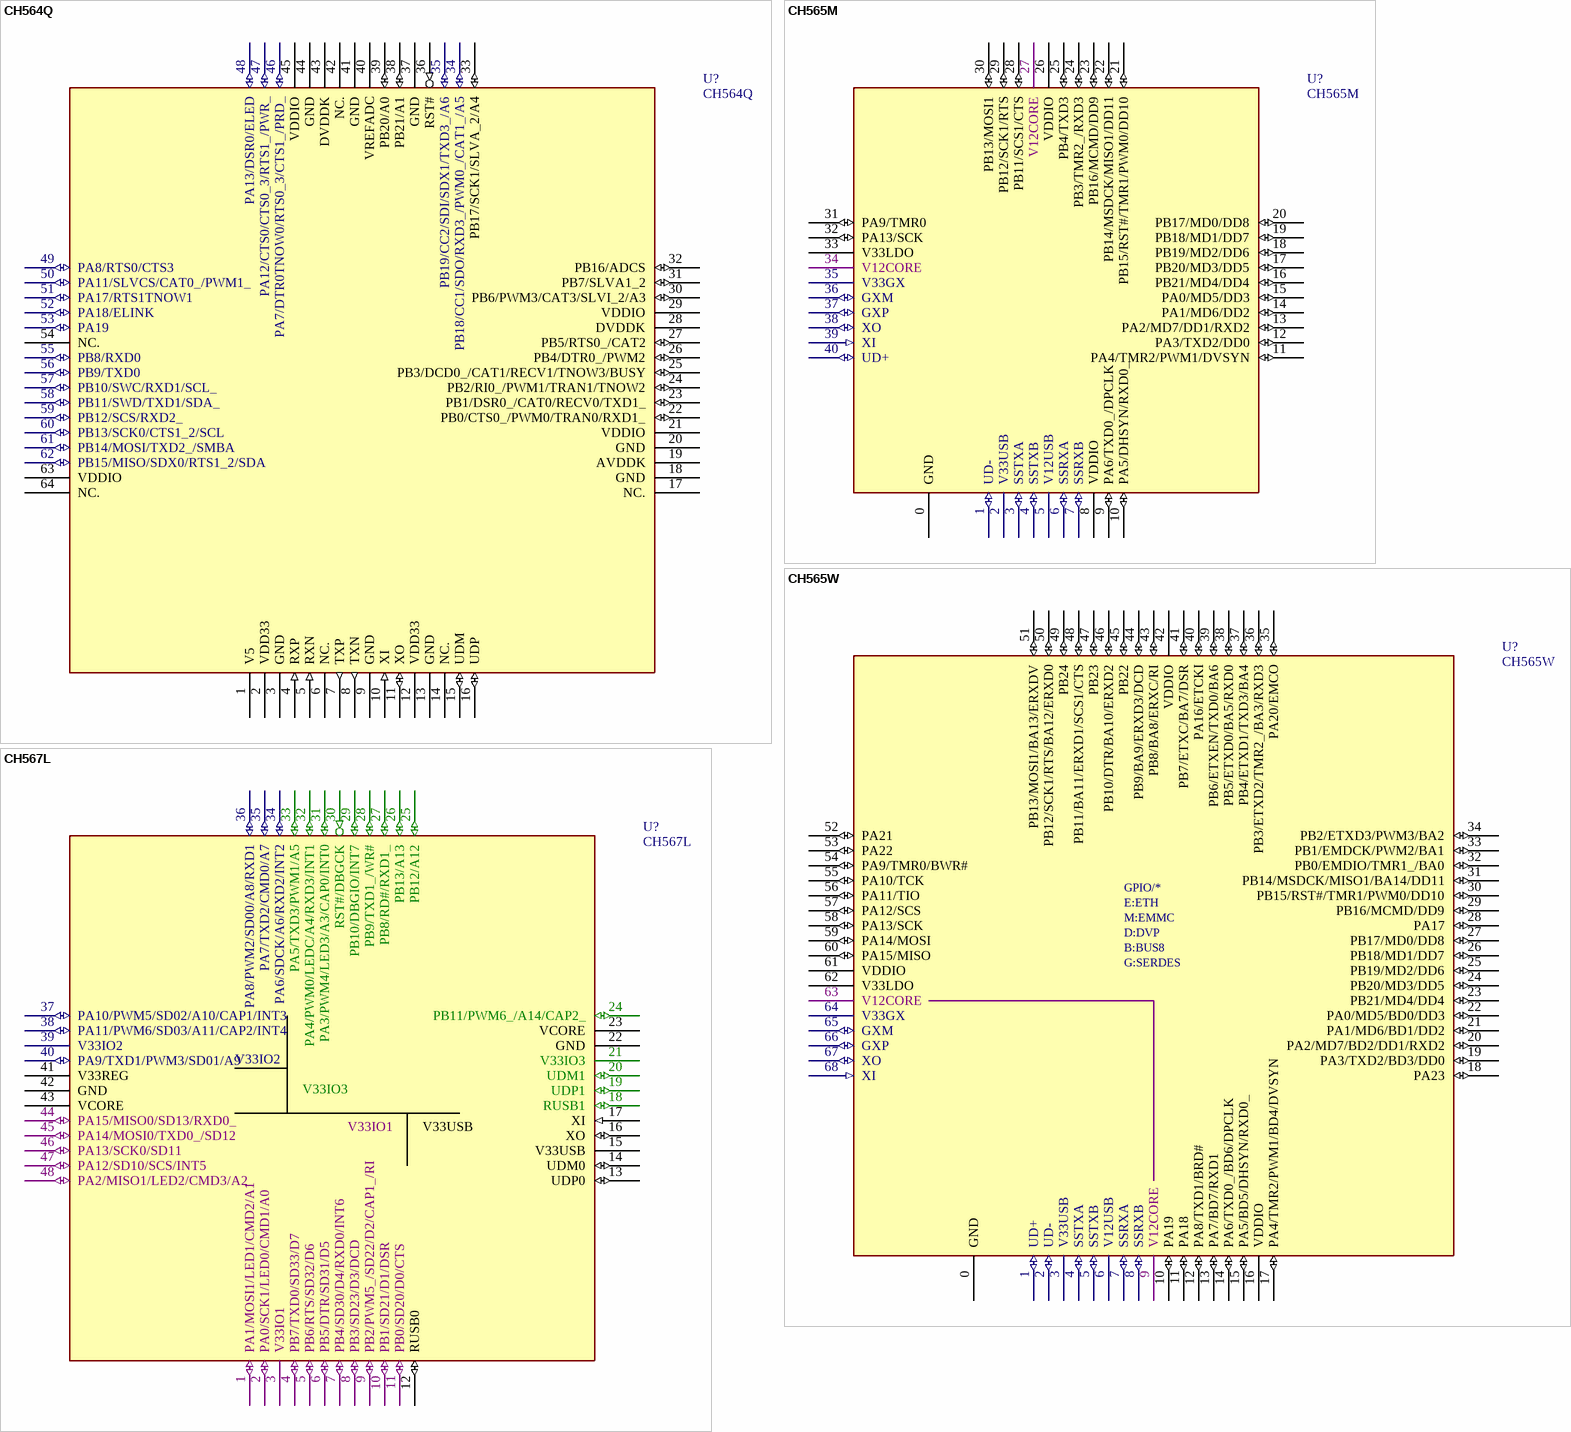
[diagram p45: symbols CH564Q to CH567L]

## CH564Q
designator U?
RISC-V MCU with USB OTG 2.0 & 100Mbps Ethernet
footprint LQFP64M_10X10
pins: 1 V5 (power), 2 VDD33 (power), 3 GND (power), 4 RXP (in), 5 RXN (in), 6 NC., 7 TXP (out), 8 TXN (out), 9 GND (power), 10 XI (in), 11 XO (io), 12 VDD33 (power), 13 GND (power), 14 NC., 15 UDM (io), 16 UDP (io), 17 NC., 18 GND (power), 19 AVDDK (power), 20 GND (power), 21 VDDIO (power), 22 PB0/CTS0_/PWM0/TRAN0/RXD1_ (io), 23 PB1/DSR0_/CAT0/RECV0/TXD1_ (io), 24 PB2/RI0_/PWM1/TRAN1/TNOW2 (io), 25 PB3/DCD0_/CAT1/RECV1/TNOW3/BUSY (io), 26 PB4/DTR0_/PWM2 (io), 27 PB5/RTS0_/CAT2 (io), 28 DVDDK (power), 29 VDDIO (power), 30 PB6/PWM3/CAT3/SLVI_2/A3 (io), 31 PB7/SLVA1_2 (io), 32 PB16/ADCS (io), 33 PB17/SCK1/SLVA_2/A4 (io), 34 PB18/CC1/SDO/RXD3_/PWM0_/CAT1_/A5 (io), 35 PB19/CC2/SDI/SDX1/TXD3_/A6 (io), 36 RST# (in), 37 GND (power), 38 PB21/A1 (io), 39 PB20/A0 (io), 40 VREFADC (power), 41 GND (power), 42 NC., 43 DVDDK (power), 44 GND (power), 45 VDDIO (power), 46 PA7/DTR0TNOW0/RTS0_3/CTS1_/PRD_ (io), 47 PA12/CTS0/CTS0_3/RTS1_/PWR_ (io), 48 PA13/DSR0/ELED (io), 49 PA8/RTS0/CTS3 (io), 50 PA11/SLVCS/CAT0_/PWM1_ (io), 51 PA17/RTS1TNOW1 (io), 52 PA18/ELINK (io), 53 PA19 (io), 54 NC., 55 PB8/RXD0 (io), 56 PB9/TXD0 (io), 57 PB10/SWC/RXD1/SCL_ (io), 58 PB11/SWD/TXD1/SDA_ (io), 59 PB12/SCS/RXD2_ (io), 60 PB13/SCK0/CTS1_2/SCL (io), 61 PB14/MOSI/TXD2_/SMBA (io), 62 PB15/MISO/SDX0/RTS1_2/SDA (io), 63 VDDIO (power), 64 NC.
2 alternate drawings of the same symbol

## CH565M
designator U?
32bit RISC-V MCU with USB 3.0 SS/HS & UART & DVP
footprint QFN40_5X5
pins: 0 GND (power), 1 UD- (io), 2 V33USB (power), 3 SSTXA (io), 4 SSTXB (io), 5 V12USB (power), 6 SSRXA (io), 7 SSRXB (io), 8 VDDIO (power), 9 PA6/TXD0_/DPCLK (io), 10 PA5/DHSYN/RXD0_ (io), 11 PA4/TMR2/PWM1/DVSYN (io), 12 PA3/TXD2/DD0 (io), 13 PA2/MD7/DD1/RXD2 (io), 14 PA1/MD6/DD2 (io), 15 PA0/MD5/DD3 (io), 16 PB21/MD4/DD4 (io), 17 PB20/MD3/DD5 (io), 18 PB19/MD2/DD6 (io), 19 PB18/MD1/DD7 (io), 20 PB17/MD0/DD8 (io), 21 PB15/RST#/TMR1/PWM0/DD10 (io), 22 PB14/MSDCK/MISO1/DD11 (io), 23 PB16/MCMD/DD9 (io), 24 PB3/TMR2_/RXD3 (io), 25 PB4/TXD3 (io), 26 VDDIO (power), 27 V12CORE (power), 28 PB11/SCS1/CTS (io), 29 PB12/SCK1/RTS (io), 30 PB13/MOSI1 (io), 31 PA9/TMR0 (io), 32 PA13/SCK (io), 33 V33LDO (power), 34 V12CORE (power), 35 V33GX (power), 36 GXM (io), 37 GXP (io), 38 XO (io), 39 XI (in), 40 UD+ (io)
2 alternate drawings of the same symbol

## CH565W
designator U?
32bit RISC-V MCU with USB 3.0 SS/HS & 4*UART & ETH & DVP
footprint QFN68_8X8
pins: 0 GND (power), 1 UD+ (io), 2 UD- (io), 3 V33USB (power), 4 SSTXA (io), 5 SSTXB (io), 6 V12USB (power), 7 SSRXA (io), 8 SSRXB (io), 9 V12CORE (power), 10 PA19 (io), 11 PA18 (io), 12 PA8/TXD1/BRD# (io), 13 PA7/BD7/RXD1 (io), 14 PA6/TXD0_/BD6/DPCLK (io), 15 PA5/BD5/DHSYN/RXD0_ (io), 16 VDDIO (power), 17 PA4/TMR2/PWM1/BD4/DVSYN (io), 18 PA23 (io), 19 PA3/TXD2/BD3/DD0 (io), 20 PA2/MD7/BD2/DD1/RXD2 (io), 21 PA1/MD6/BD1/DD2 (io), 22 PA0/MD5/BD0/DD3 (io), 23 PB21/MD4/DD4 (io), 24 PB20/MD3/DD5 (io), 25 PB19/MD2/DD6 (io), 26 PB18/MD1/DD7 (io), 27 PB17/MD0/DD8 (io), 28 PA17 (io), 29 PB16/MCMD/DD9 (io), 30 PB15/RST#/TMR1/PWM0/DD10 (io), 31 PB14/MSDCK/MISO1/BA14/DD11 (io), 32 PB0/EMDIO/TMR1_/BA0 (io), 33 PB1/EMDCK/PWM2/BA1 (io), 34 PB2/ETXD3/PWM3/BA2 (io), 35 PA20/EMCO (io), 36 PB3/ETXD2/TMR2_/BA3/RXD3 (io), 37 PB4/ETXD1/TXD3/BA4 (io), 38 PB5/ETXD0/BA5/RXD0 (io), 39 PB6/ETXEN/TXD0/BA6 (io), 40 PA16/ETCKI (io), 41 PB7/ETXC/BA7/DSR (io), 42 VDDIO (power), 43 PB8/BA8/ERXC/RI (io), 44 PB9/BA9/ERXD3/DCD (io), 45 PB22 (io), 46 PB10/DTR/BA10/ERXD2 (io), 47 PB23 (io), 48 PB11/BA11/ERXD1/SCS1/CTS (io), 49 PB24 (io), 50 PB12/SCK1/RTS/BA12/ERXD0 (io), 51 PB13/MOSI1/BA13/ERXDV (io), 52 PA21 (io), 53 PA22 (io), 54 PA9/TMR0/BWR# (io), 55 PA10/TCK (io), 56 PA11/TIO (io), 57 PA12/SCS (io), 58 PA13/SCK (io), 59 PA14/MOSI (io), 60 PA15/MISO (io), 61 VDDIO (power), 62 V33LDO (power), 63 V12CORE (power), 64 V33GX (power), 65 GXM (io), 66 GXP (io), 67 XO (io), 68 XI (in)
2 alternate drawings of the same symbol
text: GPIO/*; E:ETH; M:EMMC; D:DVP; B:BUS8; G:SERDES